# Altium integrated library Renesas Microcontroller M16C.IntLib: 423 symbols (part 10 of 30)
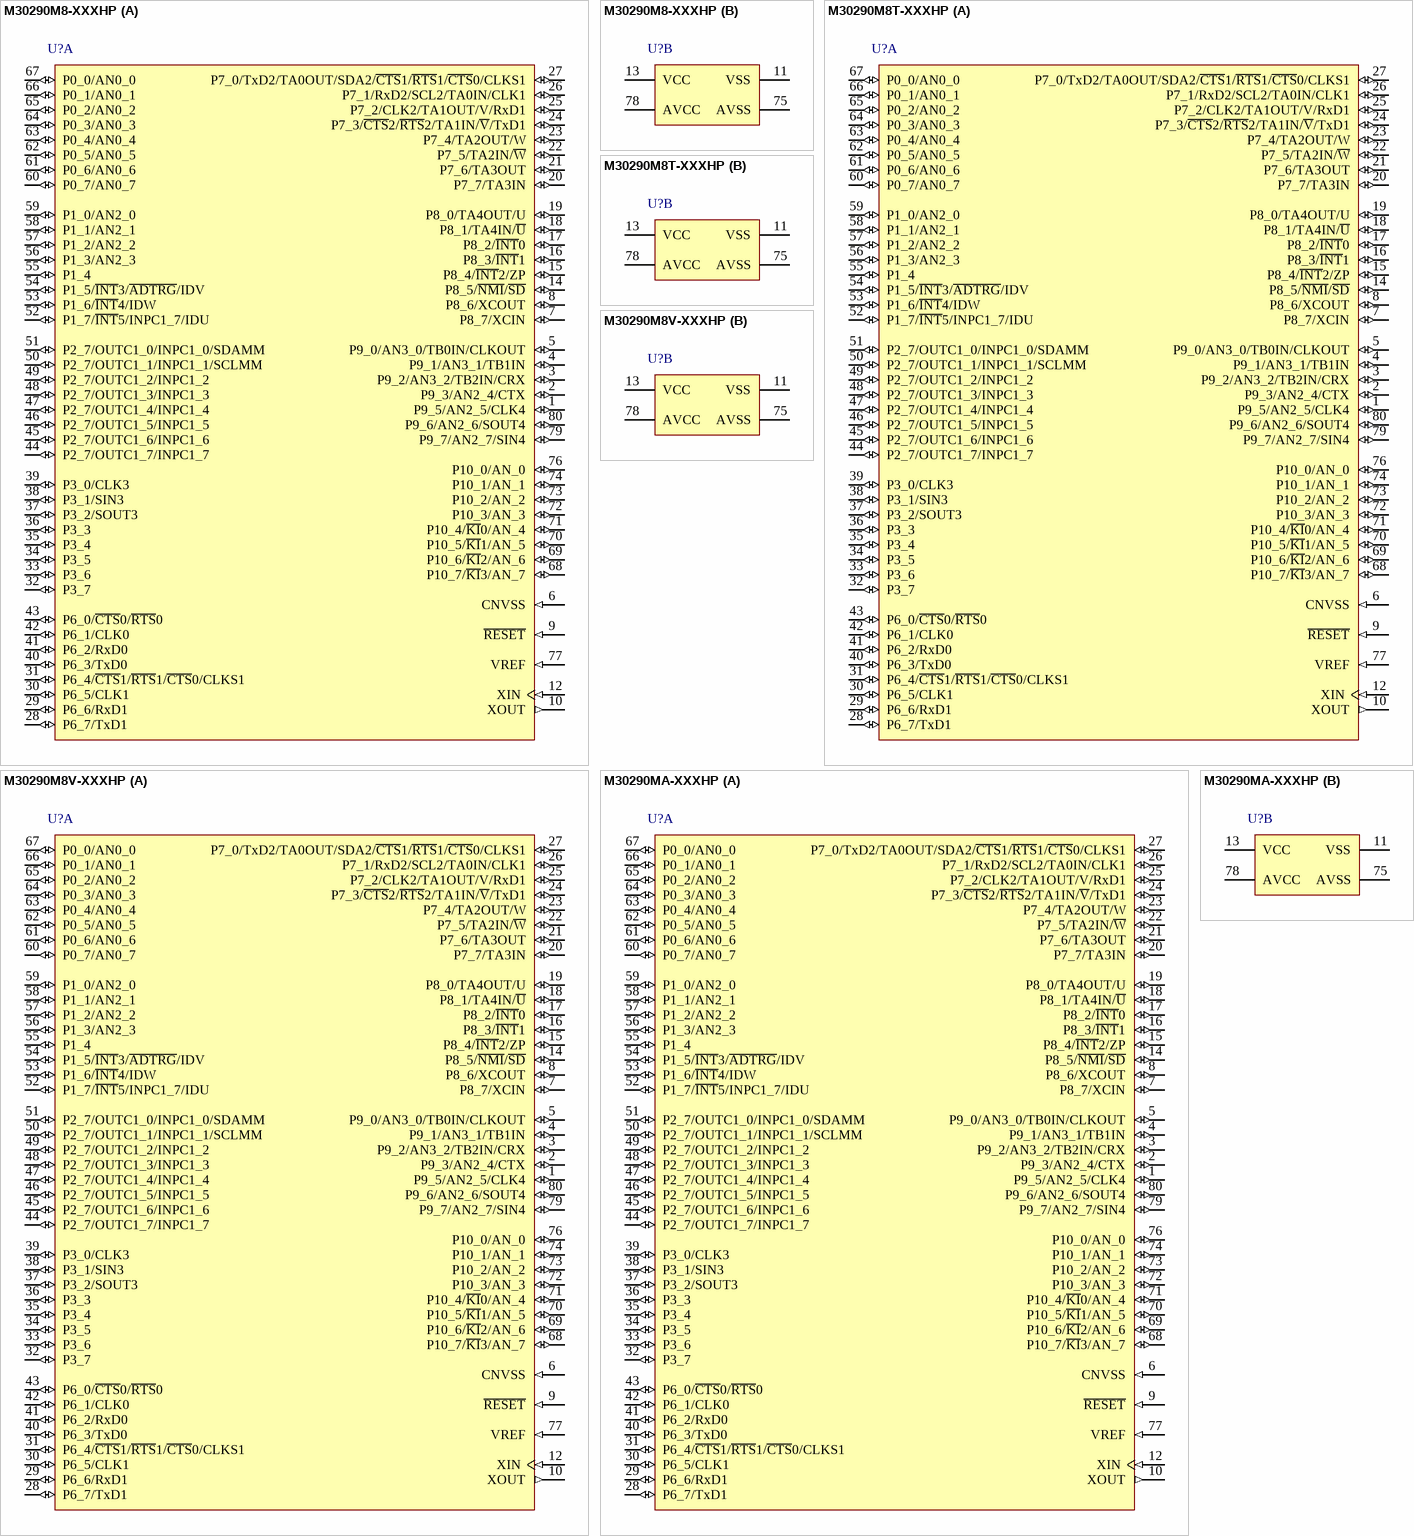
[diagram p195: symbols M30290M8-XXXHP to M30290MA-XXXHP]

## M30290MA-XXXHP
designator U?
Mask ROM M16C/Tiny Series, 29 Group MCU, 96K ROM, 8K RAM, 80-pin LQFP; Note: Set bits PACR2 to PACR0 in PACR register.  If PACR register isn't set up, input & output function of some pins disabled.; Published: 28-Aug-2009; DatasheetVersion: Rev.1.12, Mar-2007; PackageVersion: Sep-2005; PackageReference: PLQP0080KB-A; Publisher: Altium Limited; PackageDescription: 80-Pin Plastic Low Profile QFP, 12 x 12 x 1.4 mm Body, 0.5 mm Pitch; Code_JEITA: P-LQFP80-12x12-0.50; Code_IPC: SQFP50P1400X1400-80; ComponentLink1Description: Manufacturer Link; ComponentLink1URL: http://sg.renesas.com/fmwk.jsp?cnt=m16c_family_landing.jsp&fp=/products/mpumcu/m16c_family/; ComponentLink2Description: Datasheet; ComponentLink2URL: http://documentation.renesas.com/eng/products/mpumcu/rej09b0101_16c29hm.pdf; ComponentLink3Description: Packaging Specification; ComponentLink3URL: http://sg.renesas.com/media/products/common_info/package/pdf/ic/code/plqp0080kb_a.pdf
footprint PLQP0080KB-A_N (Shrink QFP, 80-Leads, Body 12x12mm, Pitch 0.5mm, IPC Medium Density)
footprint PLQP0080KB-A_L (Shrink QFP, 80-Leads, Body 12x12mm, Pitch 0.5mm, IPC High Density)
footprint PLQP0080KB-A_M (Shrink QFP, 80-Leads, Body 12x12mm, Pitch 0.5mm, IPC Low Density)
part A pins: 1 P9_5/AN2_5/CLK4 (io), 2 P9_3/AN2_4/CTX (io), 3 P9_2/AN3_2/TB2IN/CRX (io), 4 P9_1/AN3_1/TB1IN (io), 5 P9_0/AN3_0/TB0IN/CLKOUT (io), 6 CNVSS (in), 7 P8_7/XCIN (io), 8 P8_6/XCOUT (io), 9 ~{RESET} (in), 10 XOUT (out), 12 XIN (in), 14 P8_5/~{NMI}/~{SD} (io), 15 P8_4/~{INT}2/ZP (io), 16 P8_3/~{INT}1 (io), 17 P8_2/~{INT}0 (io), 18 P8_1/TA4IN/~{U} (io), 19 P8_0/TA4OUT/U (io), 20 P7_7/TA3IN (io), 21 P7_6/TA3OUT (io), 22 P7_5/TA2IN/~{W} (io), 23 P7_4/TA2OUT/W (io), 24 P7_3/~{CTS}2/~{RTS}2/TA1IN/~{V}/TxD1 (io), 25 P7_2/CLK2/TA1OUT/V/RxD1 (io), 26 P7_1/RxD2/SCL2/TA0IN/CLK1 (io), 27 P7_0/TxD2/TA0OUT/SDA2/~{CTS}1/~{RTS}1/~{CTS}0/CLKS1 (io), 28 P6_7/TxD1 (io), 29 P6_6/RxD1 (io), 30 P6_5/CLK1 (io), 31 P6_4/~{CTS}1/~{RTS}1/~{CTS}0/CLKS1 (io), 32 P3_7 (io), 33 P3_6 (io), 34 P3_5 (io), 35 P3_4 (io), 36 P3_3 (io), 37 P3_2/SOUT3 (io), 38 P3_1/SIN3 (io), 39 P3_0/CLK3 (io), 40 P6_3/TxD0 (io), 41 P6_2/RxD0 (io), 42 P6_1/CLK0 (io), 43 P6_0/~{CTS}0/~{RTS}0 (io), 44 P2_7/OUTC1_7/INPC1_7 (io), 45 P2_7/OUTC1_6/INPC1_6 (io), 46 P2_7/OUTC1_5/INPC1_5 (io), 47 P2_7/OUTC1_4/INPC1_4 (io), 48 P2_7/OUTC1_3/INPC1_3 (io), 49 P2_7/OUTC1_2/INPC1_2 (io), 50 P2_7/OUTC1_1/INPC1_1/SCLMM (io), 51 P2_7/OUTC1_0/INPC1_0/SDAMM (io), 52 P1_7/~{INT}5/INPC1_7/IDU (io), 53 P1_6/~{INT}4/IDW (io), 54 P1_5/~{INT}3/~{ADTRG}/IDV (io), 55 P1_4 (io), 56 P1_3/AN2_3 (io), 57 P1_2/AN2_2 (io), 58 P1_1/AN2_1 (io), 59 P1_0/AN2_0 (io), 60 P0_7/AN0_7 (io), 61 P0_6/AN0_6 (io), 62 P0_5/AN0_5 (io), 63 P0_4/AN0_4 (io), 64 P0_3/AN0_3 (io), 65 P0_2/AN0_2 (io), 66 P0_1/AN0_1 (io), 67 P0_0/AN0_0 (io), 68 P10_7/~{KI}3/AN_7 (io), 69 P10_6/~{KI}2/AN_6 (io), 70 P10_5/~{KI}1/AN_5 (io), 71 P10_4/~{KI}0/AN_4 (io), 72 P10_3/AN_3 (io), 73 P10_2/AN_2 (io), 74 P10_1/AN_1 (io), 76 P10_0/AN_0 (io), 77 VREF (in), 79 P9_7/AN2_7/SIN4 (io), 80 P9_6/AN2_6/SOUT4 (io)
part B pins: 11 VSS (power), 13 VCC (power), 75 AVSS (power), 78 AVCC (power)

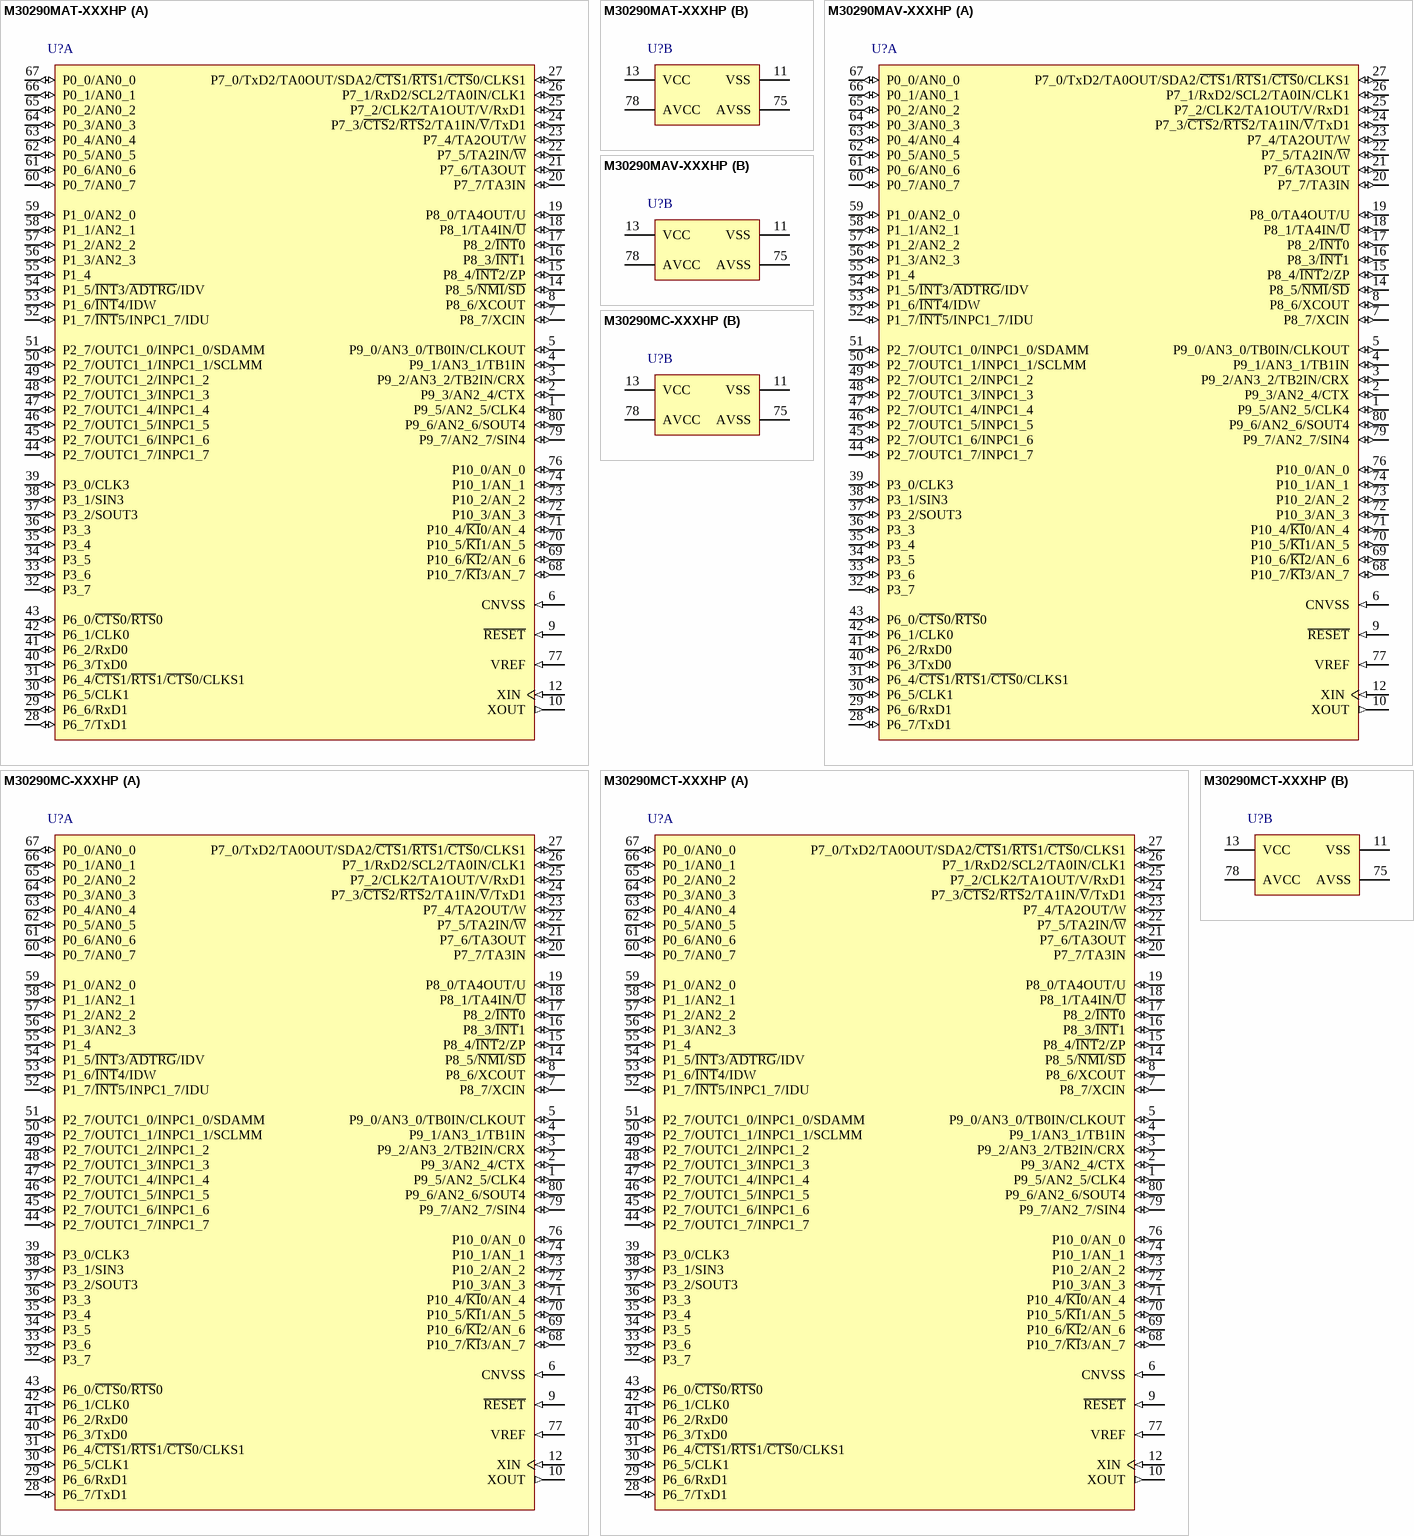
[diagram p52: symbols M30290MAT-XXXHP to M30290MCT-XXXHP]

## M30290MAT-XXXHP
designator U?
Mask ROM M16C/Tiny Series, 29 Group MCU, 96K ROM, 8K RAM, 80-pin LQFP, Version T; Note: Set bits PACR2 to PACR0 in PACR register.  If PACR register isn't set up, input & output function of some pins disabled.; Published: 28-Aug-2009; DatasheetVersion: Rev.1.12, Mar-2007; PackageVersion: Sep-2005; PackageReference: PLQP0080KB-A; Publisher: Altium Limited; PackageDescription: 80-Pin Plastic Low Profile QFP, 12 x 12 x 1.4 mm Body, 0.5 mm Pitch; Code_JEITA: P-LQFP80-12x12-0.50; Code_IPC: SQFP50P1400X1400-80; ComponentLink1Description: Manufacturer Link; ComponentLink1URL: http://sg.renesas.com/fmwk.jsp?cnt=m16c_family_landing.jsp&fp=/products/mpumcu/m16c_family/; ComponentLink2Description: Datasheet; ComponentLink2URL: http://documentation.renesas.com/eng/products/mpumcu/rej09b0101_16c29hm.pdf; ComponentLink3Description: Packaging Specification; ComponentLink3URL: http://sg.renesas.com/media/products/common_info/package/pdf/ic/code/plqp0080kb_a.pdf
footprint PLQP0080KB-A_N (Shrink QFP, 80-Leads, Body 12x12mm, Pitch 0.5mm, IPC Medium Density)
footprint PLQP0080KB-A_L (Shrink QFP, 80-Leads, Body 12x12mm, Pitch 0.5mm, IPC High Density)
footprint PLQP0080KB-A_M (Shrink QFP, 80-Leads, Body 12x12mm, Pitch 0.5mm, IPC Low Density)
part A pins: 1 P9_5/AN2_5/CLK4 (io), 2 P9_3/AN2_4/CTX (io), 3 P9_2/AN3_2/TB2IN/CRX (io), 4 P9_1/AN3_1/TB1IN (io), 5 P9_0/AN3_0/TB0IN/CLKOUT (io), 6 CNVSS (in), 7 P8_7/XCIN (io), 8 P8_6/XCOUT (io), 9 ~{RESET} (in), 10 XOUT (out), 12 XIN (in), 14 P8_5/~{NMI}/~{SD} (io), 15 P8_4/~{INT}2/ZP (io), 16 P8_3/~{INT}1 (io), 17 P8_2/~{INT}0 (io), 18 P8_1/TA4IN/~{U} (io), 19 P8_0/TA4OUT/U (io), 20 P7_7/TA3IN (io), 21 P7_6/TA3OUT (io), 22 P7_5/TA2IN/~{W} (io), 23 P7_4/TA2OUT/W (io), 24 P7_3/~{CTS}2/~{RTS}2/TA1IN/~{V}/TxD1 (io), 25 P7_2/CLK2/TA1OUT/V/RxD1 (io), 26 P7_1/RxD2/SCL2/TA0IN/CLK1 (io), 27 P7_0/TxD2/TA0OUT/SDA2/~{CTS}1/~{RTS}1/~{CTS}0/CLKS1 (io), 28 P6_7/TxD1 (io), 29 P6_6/RxD1 (io), 30 P6_5/CLK1 (io), 31 P6_4/~{CTS}1/~{RTS}1/~{CTS}0/CLKS1 (io), 32 P3_7 (io), 33 P3_6 (io), 34 P3_5 (io), 35 P3_4 (io), 36 P3_3 (io), 37 P3_2/SOUT3 (io), 38 P3_1/SIN3 (io), 39 P3_0/CLK3 (io), 40 P6_3/TxD0 (io), 41 P6_2/RxD0 (io), 42 P6_1/CLK0 (io), 43 P6_0/~{CTS}0/~{RTS}0 (io), 44 P2_7/OUTC1_7/INPC1_7 (io), 45 P2_7/OUTC1_6/INPC1_6 (io), 46 P2_7/OUTC1_5/INPC1_5 (io), 47 P2_7/OUTC1_4/INPC1_4 (io), 48 P2_7/OUTC1_3/INPC1_3 (io), 49 P2_7/OUTC1_2/INPC1_2 (io), 50 P2_7/OUTC1_1/INPC1_1/SCLMM (io), 51 P2_7/OUTC1_0/INPC1_0/SDAMM (io), 52 P1_7/~{INT}5/INPC1_7/IDU (io), 53 P1_6/~{INT}4/IDW (io), 54 P1_5/~{INT}3/~{ADTRG}/IDV (io), 55 P1_4 (io), 56 P1_3/AN2_3 (io), 57 P1_2/AN2_2 (io), 58 P1_1/AN2_1 (io), 59 P1_0/AN2_0 (io), 60 P0_7/AN0_7 (io), 61 P0_6/AN0_6 (io), 62 P0_5/AN0_5 (io), 63 P0_4/AN0_4 (io), 64 P0_3/AN0_3 (io), 65 P0_2/AN0_2 (io), 66 P0_1/AN0_1 (io), 67 P0_0/AN0_0 (io), 68 P10_7/~{KI}3/AN_7 (io), 69 P10_6/~{KI}2/AN_6 (io), 70 P10_5/~{KI}1/AN_5 (io), 71 P10_4/~{KI}0/AN_4 (io), 72 P10_3/AN_3 (io), 73 P10_2/AN_2 (io), 74 P10_1/AN_1 (io), 76 P10_0/AN_0 (io), 77 VREF (in), 79 P9_7/AN2_7/SIN4 (io), 80 P9_6/AN2_6/SOUT4 (io)
part B pins: 11 VSS (power), 13 VCC (power), 75 AVSS (power), 78 AVCC (power)

## M30290MAV-XXXHP
designator U?
Mask ROM M16C/Tiny Series, 29 Group MCU, 96K ROM, 8K RAM, 80-pin LQFP, Version V; Note: Set bits PACR2 to PACR0 in PACR register.  If PACR register isn't set up, input & output function of some pins disabled.; Published: 28-Aug-2009; DatasheetVersion: Rev.1.12, Mar-2007; PackageVersion: Sep-2005; PackageReference: PLQP0080KB-A; Publisher: Altium Limited; PackageDescription: 80-Pin Plastic Low Profile QFP, 12 x 12 x 1.4 mm Body, 0.5 mm Pitch; Code_JEITA: P-LQFP80-12x12-0.50; Code_IPC: SQFP50P1400X1400-80; ComponentLink1Description: Manufacturer Link; ComponentLink1URL: http://sg.renesas.com/fmwk.jsp?cnt=m16c_family_landing.jsp&fp=/products/mpumcu/m16c_family/; ComponentLink2Description: Datasheet; ComponentLink2URL: http://documentation.renesas.com/eng/products/mpumcu/rej09b0101_16c29hm.pdf; ComponentLink3Description: Packaging Specification; ComponentLink3URL: http://sg.renesas.com/media/products/common_info/package/pdf/ic/code/plqp0080kb_a.pdf
footprint PLQP0080KB-A_N (Shrink QFP, 80-Leads, Body 12x12mm, Pitch 0.5mm, IPC Medium Density)
footprint PLQP0080KB-A_L (Shrink QFP, 80-Leads, Body 12x12mm, Pitch 0.5mm, IPC High Density)
footprint PLQP0080KB-A_M (Shrink QFP, 80-Leads, Body 12x12mm, Pitch 0.5mm, IPC Low Density)
part A pins: 1 P9_5/AN2_5/CLK4 (io), 2 P9_3/AN2_4/CTX (io), 3 P9_2/AN3_2/TB2IN/CRX (io), 4 P9_1/AN3_1/TB1IN (io), 5 P9_0/AN3_0/TB0IN/CLKOUT (io), 6 CNVSS (in), 7 P8_7/XCIN (io), 8 P8_6/XCOUT (io), 9 ~{RESET} (in), 10 XOUT (out), 12 XIN (in), 14 P8_5/~{NMI}/~{SD} (io), 15 P8_4/~{INT}2/ZP (io), 16 P8_3/~{INT}1 (io), 17 P8_2/~{INT}0 (io), 18 P8_1/TA4IN/~{U} (io), 19 P8_0/TA4OUT/U (io), 20 P7_7/TA3IN (io), 21 P7_6/TA3OUT (io), 22 P7_5/TA2IN/~{W} (io), 23 P7_4/TA2OUT/W (io), 24 P7_3/~{CTS}2/~{RTS}2/TA1IN/~{V}/TxD1 (io), 25 P7_2/CLK2/TA1OUT/V/RxD1 (io), 26 P7_1/RxD2/SCL2/TA0IN/CLK1 (io), 27 P7_0/TxD2/TA0OUT/SDA2/~{CTS}1/~{RTS}1/~{CTS}0/CLKS1 (io), 28 P6_7/TxD1 (io), 29 P6_6/RxD1 (io), 30 P6_5/CLK1 (io), 31 P6_4/~{CTS}1/~{RTS}1/~{CTS}0/CLKS1 (io), 32 P3_7 (io), 33 P3_6 (io), 34 P3_5 (io), 35 P3_4 (io), 36 P3_3 (io), 37 P3_2/SOUT3 (io), 38 P3_1/SIN3 (io), 39 P3_0/CLK3 (io), 40 P6_3/TxD0 (io), 41 P6_2/RxD0 (io), 42 P6_1/CLK0 (io), 43 P6_0/~{CTS}0/~{RTS}0 (io), 44 P2_7/OUTC1_7/INPC1_7 (io), 45 P2_7/OUTC1_6/INPC1_6 (io), 46 P2_7/OUTC1_5/INPC1_5 (io), 47 P2_7/OUTC1_4/INPC1_4 (io), 48 P2_7/OUTC1_3/INPC1_3 (io), 49 P2_7/OUTC1_2/INPC1_2 (io), 50 P2_7/OUTC1_1/INPC1_1/SCLMM (io), 51 P2_7/OUTC1_0/INPC1_0/SDAMM (io), 52 P1_7/~{INT}5/INPC1_7/IDU (io), 53 P1_6/~{INT}4/IDW (io), 54 P1_5/~{INT}3/~{ADTRG}/IDV (io), 55 P1_4 (io), 56 P1_3/AN2_3 (io), 57 P1_2/AN2_2 (io), 58 P1_1/AN2_1 (io), 59 P1_0/AN2_0 (io), 60 P0_7/AN0_7 (io), 61 P0_6/AN0_6 (io), 62 P0_5/AN0_5 (io), 63 P0_4/AN0_4 (io), 64 P0_3/AN0_3 (io), 65 P0_2/AN0_2 (io), 66 P0_1/AN0_1 (io), 67 P0_0/AN0_0 (io), 68 P10_7/~{KI}3/AN_7 (io), 69 P10_6/~{KI}2/AN_6 (io), 70 P10_5/~{KI}1/AN_5 (io), 71 P10_4/~{KI}0/AN_4 (io), 72 P10_3/AN_3 (io), 73 P10_2/AN_2 (io), 74 P10_1/AN_1 (io), 76 P10_0/AN_0 (io), 77 VREF (in), 79 P9_7/AN2_7/SIN4 (io), 80 P9_6/AN2_6/SOUT4 (io)
part B pins: 11 VSS (power), 13 VCC (power), 75 AVSS (power), 78 AVCC (power)

## M30290MC-XXXHP
designator U?
Mask ROM M16C/Tiny Series, 29 Group MCU, 128K ROM, 12K RAM, 80-pin LQFP; Note: Set bits PACR2 to PACR0 in PACR register.  If PACR register isn't set up, input & output function of some pins disabled.; Published: 28-Aug-2009; DatasheetVersion: Rev.1.12, Mar-2007; PackageVersion: Sep-2005; PackageReference: PLQP0080KB-A; Publisher: Altium Limited; PackageDescription: 80-Pin Plastic Low Profile QFP, 12 x 12 x 1.4 mm Body, 0.5 mm Pitch; Code_JEITA: P-LQFP80-12x12-0.50; Code_IPC: SQFP50P1400X1400-80; ComponentLink1Description: Manufacturer Link; ComponentLink1URL: http://sg.renesas.com/fmwk.jsp?cnt=m16c_family_landing.jsp&fp=/products/mpumcu/m16c_family/; ComponentLink2Description: Datasheet; ComponentLink2URL: http://documentation.renesas.com/eng/products/mpumcu/rej09b0101_16c29hm.pdf; ComponentLink3Description: Packaging Specification; ComponentLink3URL: http://sg.renesas.com/media/products/common_info/package/pdf/ic/code/plqp0080kb_a.pdf
footprint PLQP0080KB-A_N (Shrink QFP, 80-Leads, Body 12x12mm, Pitch 0.5mm, IPC Medium Density)
footprint PLQP0080KB-A_L (Shrink QFP, 80-Leads, Body 12x12mm, Pitch 0.5mm, IPC High Density)
footprint PLQP0080KB-A_M (Shrink QFP, 80-Leads, Body 12x12mm, Pitch 0.5mm, IPC Low Density)
part A pins: 1 P9_5/AN2_5/CLK4 (io), 2 P9_3/AN2_4/CTX (io), 3 P9_2/AN3_2/TB2IN/CRX (io), 4 P9_1/AN3_1/TB1IN (io), 5 P9_0/AN3_0/TB0IN/CLKOUT (io), 6 CNVSS (in), 7 P8_7/XCIN (io), 8 P8_6/XCOUT (io), 9 ~{RESET} (in), 10 XOUT (out), 12 XIN (in), 14 P8_5/~{NMI}/~{SD} (io), 15 P8_4/~{INT}2/ZP (io), 16 P8_3/~{INT}1 (io), 17 P8_2/~{INT}0 (io), 18 P8_1/TA4IN/~{U} (io), 19 P8_0/TA4OUT/U (io), 20 P7_7/TA3IN (io), 21 P7_6/TA3OUT (io), 22 P7_5/TA2IN/~{W} (io), 23 P7_4/TA2OUT/W (io), 24 P7_3/~{CTS}2/~{RTS}2/TA1IN/~{V}/TxD1 (io), 25 P7_2/CLK2/TA1OUT/V/RxD1 (io), 26 P7_1/RxD2/SCL2/TA0IN/CLK1 (io), 27 P7_0/TxD2/TA0OUT/SDA2/~{CTS}1/~{RTS}1/~{CTS}0/CLKS1 (io), 28 P6_7/TxD1 (io), 29 P6_6/RxD1 (io), 30 P6_5/CLK1 (io), 31 P6_4/~{CTS}1/~{RTS}1/~{CTS}0/CLKS1 (io), 32 P3_7 (io), 33 P3_6 (io), 34 P3_5 (io), 35 P3_4 (io), 36 P3_3 (io), 37 P3_2/SOUT3 (io), 38 P3_1/SIN3 (io), 39 P3_0/CLK3 (io), 40 P6_3/TxD0 (io), 41 P6_2/RxD0 (io), 42 P6_1/CLK0 (io), 43 P6_0/~{CTS}0/~{RTS}0 (io), 44 P2_7/OUTC1_7/INPC1_7 (io), 45 P2_7/OUTC1_6/INPC1_6 (io), 46 P2_7/OUTC1_5/INPC1_5 (io), 47 P2_7/OUTC1_4/INPC1_4 (io), 48 P2_7/OUTC1_3/INPC1_3 (io), 49 P2_7/OUTC1_2/INPC1_2 (io), 50 P2_7/OUTC1_1/INPC1_1/SCLMM (io), 51 P2_7/OUTC1_0/INPC1_0/SDAMM (io), 52 P1_7/~{INT}5/INPC1_7/IDU (io), 53 P1_6/~{INT}4/IDW (io), 54 P1_5/~{INT}3/~{ADTRG}/IDV (io), 55 P1_4 (io), 56 P1_3/AN2_3 (io), 57 P1_2/AN2_2 (io), 58 P1_1/AN2_1 (io), 59 P1_0/AN2_0 (io), 60 P0_7/AN0_7 (io), 61 P0_6/AN0_6 (io), 62 P0_5/AN0_5 (io), 63 P0_4/AN0_4 (io), 64 P0_3/AN0_3 (io), 65 P0_2/AN0_2 (io), 66 P0_1/AN0_1 (io), 67 P0_0/AN0_0 (io), 68 P10_7/~{KI}3/AN_7 (io), 69 P10_6/~{KI}2/AN_6 (io), 70 P10_5/~{KI}1/AN_5 (io), 71 P10_4/~{KI}0/AN_4 (io), 72 P10_3/AN_3 (io), 73 P10_2/AN_2 (io), 74 P10_1/AN_1 (io), 76 P10_0/AN_0 (io), 77 VREF (in), 79 P9_7/AN2_7/SIN4 (io), 80 P9_6/AN2_6/SOUT4 (io)
part B pins: 11 VSS (power), 13 VCC (power), 75 AVSS (power), 78 AVCC (power)

## M30290MCT-XXXHP
designator U?
Mask ROM M16C/Tiny Series, 29 Group MCU, 128K ROM, 12K RAM, 80-pin LQFP, Version T; Note: Set bits PACR2 to PACR0 in PACR register.  If PACR register isn't set up, input & output function of some pins disabled.; Published: 28-Aug-2009; DatasheetVersion: Rev.1.12, Mar-2007; PackageVersion: Sep-2005; PackageReference: PLQP0080KB-A; Publisher: Altium Limited; PackageDescription: 80-Pin Plastic Low Profile QFP, 12 x 12 x 1.4 mm Body, 0.5 mm Pitch; Code_JEITA: P-LQFP80-12x12-0.50; Code_IPC: SQFP50P1400X1400-80; ComponentLink1Description: Manufacturer Link; ComponentLink1URL: http://sg.renesas.com/fmwk.jsp?cnt=m16c_family_landing.jsp&fp=/products/mpumcu/m16c_family/; ComponentLink2Description: Datasheet; ComponentLink2URL: http://documentation.renesas.com/eng/products/mpumcu/rej09b0101_16c29hm.pdf; ComponentLink3Description: Packaging Specification; ComponentLink3URL: http://sg.renesas.com/media/products/common_info/package/pdf/ic/code/plqp0080kb_a.pdf
footprint PLQP0080KB-A_N (Shrink QFP, 80-Leads, Body 12x12mm, Pitch 0.5mm, IPC Medium Density)
footprint PLQP0080KB-A_L (Shrink QFP, 80-Leads, Body 12x12mm, Pitch 0.5mm, IPC High Density)
footprint PLQP0080KB-A_M (Shrink QFP, 80-Leads, Body 12x12mm, Pitch 0.5mm, IPC Low Density)
part A pins: 1 P9_5/AN2_5/CLK4 (io), 2 P9_3/AN2_4/CTX (io), 3 P9_2/AN3_2/TB2IN/CRX (io), 4 P9_1/AN3_1/TB1IN (io), 5 P9_0/AN3_0/TB0IN/CLKOUT (io), 6 CNVSS (in), 7 P8_7/XCIN (io), 8 P8_6/XCOUT (io), 9 ~{RESET} (in), 10 XOUT (out), 12 XIN (in), 14 P8_5/~{NMI}/~{SD} (io), 15 P8_4/~{INT}2/ZP (io), 16 P8_3/~{INT}1 (io), 17 P8_2/~{INT}0 (io), 18 P8_1/TA4IN/~{U} (io), 19 P8_0/TA4OUT/U (io), 20 P7_7/TA3IN (io), 21 P7_6/TA3OUT (io), 22 P7_5/TA2IN/~{W} (io), 23 P7_4/TA2OUT/W (io), 24 P7_3/~{CTS}2/~{RTS}2/TA1IN/~{V}/TxD1 (io), 25 P7_2/CLK2/TA1OUT/V/RxD1 (io), 26 P7_1/RxD2/SCL2/TA0IN/CLK1 (io), 27 P7_0/TxD2/TA0OUT/SDA2/~{CTS}1/~{RTS}1/~{CTS}0/CLKS1 (io), 28 P6_7/TxD1 (io), 29 P6_6/RxD1 (io), 30 P6_5/CLK1 (io), 31 P6_4/~{CTS}1/~{RTS}1/~{CTS}0/CLKS1 (io), 32 P3_7 (io), 33 P3_6 (io), 34 P3_5 (io), 35 P3_4 (io), 36 P3_3 (io), 37 P3_2/SOUT3 (io), 38 P3_1/SIN3 (io), 39 P3_0/CLK3 (io), 40 P6_3/TxD0 (io), 41 P6_2/RxD0 (io), 42 P6_1/CLK0 (io), 43 P6_0/~{CTS}0/~{RTS}0 (io), 44 P2_7/OUTC1_7/INPC1_7 (io), 45 P2_7/OUTC1_6/INPC1_6 (io), 46 P2_7/OUTC1_5/INPC1_5 (io), 47 P2_7/OUTC1_4/INPC1_4 (io), 48 P2_7/OUTC1_3/INPC1_3 (io), 49 P2_7/OUTC1_2/INPC1_2 (io), 50 P2_7/OUTC1_1/INPC1_1/SCLMM (io), 51 P2_7/OUTC1_0/INPC1_0/SDAMM (io), 52 P1_7/~{INT}5/INPC1_7/IDU (io), 53 P1_6/~{INT}4/IDW (io), 54 P1_5/~{INT}3/~{ADTRG}/IDV (io), 55 P1_4 (io), 56 P1_3/AN2_3 (io), 57 P1_2/AN2_2 (io), 58 P1_1/AN2_1 (io), 59 P1_0/AN2_0 (io), 60 P0_7/AN0_7 (io), 61 P0_6/AN0_6 (io), 62 P0_5/AN0_5 (io), 63 P0_4/AN0_4 (io), 64 P0_3/AN0_3 (io), 65 P0_2/AN0_2 (io), 66 P0_1/AN0_1 (io), 67 P0_0/AN0_0 (io), 68 P10_7/~{KI}3/AN_7 (io), 69 P10_6/~{KI}2/AN_6 (io), 70 P10_5/~{KI}1/AN_5 (io), 71 P10_4/~{KI}0/AN_4 (io), 72 P10_3/AN_3 (io), 73 P10_2/AN_2 (io), 74 P10_1/AN_1 (io), 76 P10_0/AN_0 (io), 77 VREF (in), 79 P9_7/AN2_7/SIN4 (io), 80 P9_6/AN2_6/SOUT4 (io)
part B pins: 11 VSS (power), 13 VCC (power), 75 AVSS (power), 78 AVCC (power)

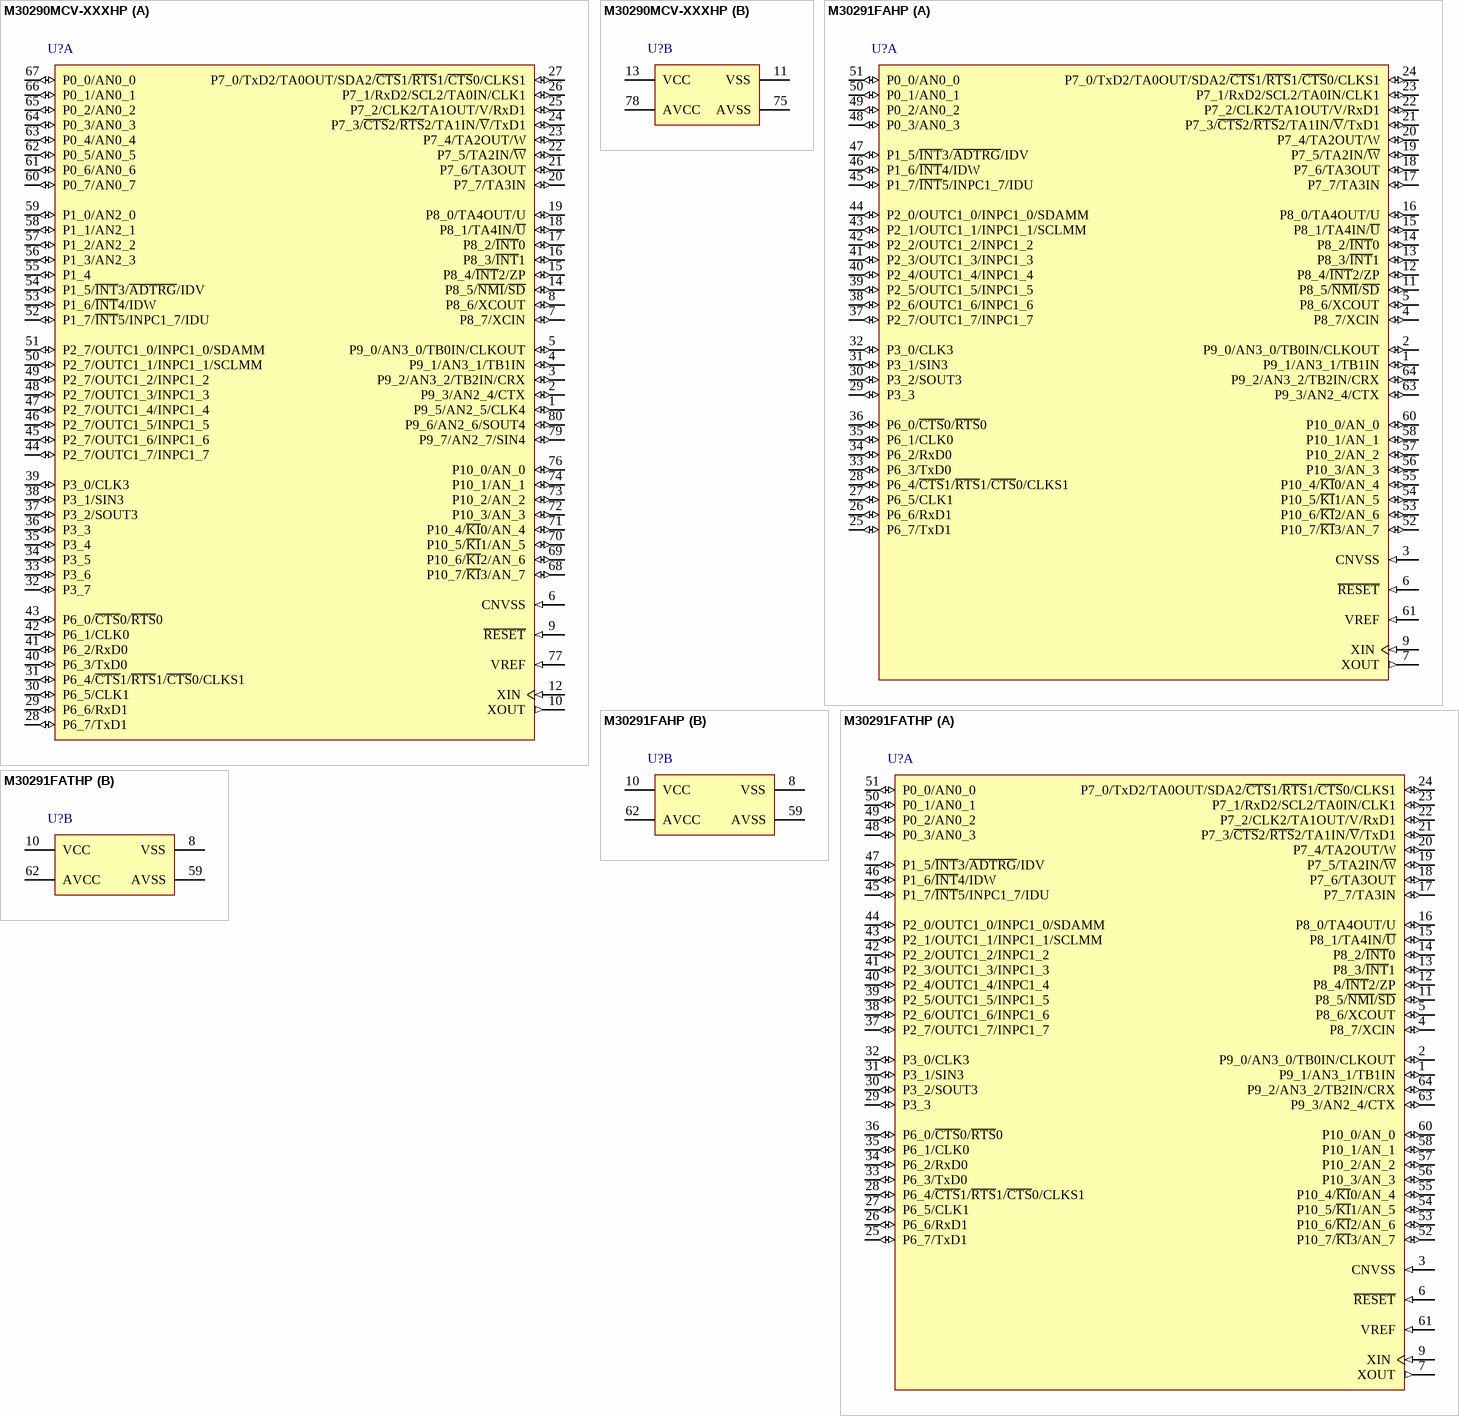
[diagram p53: symbols M30290MCV-XXXHP to M30291FATHP]

## M30290MCV-XXXHP
designator U?
Mask ROM M16C/Tiny Series, 29 Group MCU, 128K ROM, 12K RAM, 80-pin LQFP, Version V; Note: Set bits PACR2 to PACR0 in PACR register.  If PACR register isn't set up, input & output function of some pins disabled.; Published: 28-Aug-2009; DatasheetVersion: Rev.1.12, Mar-2007; PackageVersion: Sep-2005; PackageReference: PLQP0080KB-A; Publisher: Altium Limited; PackageDescription: 80-Pin Plastic Low Profile QFP, 12 x 12 x 1.4 mm Body, 0.5 mm Pitch; Code_JEITA: P-LQFP80-12x12-0.50; Code_IPC: SQFP50P1400X1400-80; ComponentLink1Description: Manufacturer Link; ComponentLink1URL: http://sg.renesas.com/fmwk.jsp?cnt=m16c_family_landing.jsp&fp=/products/mpumcu/m16c_family/; ComponentLink2Description: Datasheet; ComponentLink2URL: http://documentation.renesas.com/eng/products/mpumcu/rej09b0101_16c29hm.pdf; ComponentLink3Description: Packaging Specification; ComponentLink3URL: http://sg.renesas.com/media/products/common_info/package/pdf/ic/code/plqp0080kb_a.pdf
footprint PLQP0080KB-A_N (Shrink QFP, 80-Leads, Body 12x12mm, Pitch 0.5mm, IPC Medium Density)
footprint PLQP0080KB-A_L (Shrink QFP, 80-Leads, Body 12x12mm, Pitch 0.5mm, IPC High Density)
footprint PLQP0080KB-A_M (Shrink QFP, 80-Leads, Body 12x12mm, Pitch 0.5mm, IPC Low Density)
part A pins: 1 P9_5/AN2_5/CLK4 (io), 2 P9_3/AN2_4/CTX (io), 3 P9_2/AN3_2/TB2IN/CRX (io), 4 P9_1/AN3_1/TB1IN (io), 5 P9_0/AN3_0/TB0IN/CLKOUT (io), 6 CNVSS (in), 7 P8_7/XCIN (io), 8 P8_6/XCOUT (io), 9 ~{RESET} (in), 10 XOUT (out), 12 XIN (in), 14 P8_5/~{NMI}/~{SD} (io), 15 P8_4/~{INT}2/ZP (io), 16 P8_3/~{INT}1 (io), 17 P8_2/~{INT}0 (io), 18 P8_1/TA4IN/~{U} (io), 19 P8_0/TA4OUT/U (io), 20 P7_7/TA3IN (io), 21 P7_6/TA3OUT (io), 22 P7_5/TA2IN/~{W} (io), 23 P7_4/TA2OUT/W (io), 24 P7_3/~{CTS}2/~{RTS}2/TA1IN/~{V}/TxD1 (io), 25 P7_2/CLK2/TA1OUT/V/RxD1 (io), 26 P7_1/RxD2/SCL2/TA0IN/CLK1 (io), 27 P7_0/TxD2/TA0OUT/SDA2/~{CTS}1/~{RTS}1/~{CTS}0/CLKS1 (io), 28 P6_7/TxD1 (io), 29 P6_6/RxD1 (io), 30 P6_5/CLK1 (io), 31 P6_4/~{CTS}1/~{RTS}1/~{CTS}0/CLKS1 (io), 32 P3_7 (io), 33 P3_6 (io), 34 P3_5 (io), 35 P3_4 (io), 36 P3_3 (io), 37 P3_2/SOUT3 (io), 38 P3_1/SIN3 (io), 39 P3_0/CLK3 (io), 40 P6_3/TxD0 (io), 41 P6_2/RxD0 (io), 42 P6_1/CLK0 (io), 43 P6_0/~{CTS}0/~{RTS}0 (io), 44 P2_7/OUTC1_7/INPC1_7 (io), 45 P2_7/OUTC1_6/INPC1_6 (io), 46 P2_7/OUTC1_5/INPC1_5 (io), 47 P2_7/OUTC1_4/INPC1_4 (io), 48 P2_7/OUTC1_3/INPC1_3 (io), 49 P2_7/OUTC1_2/INPC1_2 (io), 50 P2_7/OUTC1_1/INPC1_1/SCLMM (io), 51 P2_7/OUTC1_0/INPC1_0/SDAMM (io), 52 P1_7/~{INT}5/INPC1_7/IDU (io), 53 P1_6/~{INT}4/IDW (io), 54 P1_5/~{INT}3/~{ADTRG}/IDV (io), 55 P1_4 (io), 56 P1_3/AN2_3 (io), 57 P1_2/AN2_2 (io), 58 P1_1/AN2_1 (io), 59 P1_0/AN2_0 (io), 60 P0_7/AN0_7 (io), 61 P0_6/AN0_6 (io), 62 P0_5/AN0_5 (io), 63 P0_4/AN0_4 (io), 64 P0_3/AN0_3 (io), 65 P0_2/AN0_2 (io), 66 P0_1/AN0_1 (io), 67 P0_0/AN0_0 (io), 68 P10_7/~{KI}3/AN_7 (io), 69 P10_6/~{KI}2/AN_6 (io), 70 P10_5/~{KI}1/AN_5 (io), 71 P10_4/~{KI}0/AN_4 (io), 72 P10_3/AN_3 (io), 73 P10_2/AN_2 (io), 74 P10_1/AN_1 (io), 76 P10_0/AN_0 (io), 77 VREF (in), 79 P9_7/AN2_7/SIN4 (io), 80 P9_6/AN2_6/SOUT4 (io)
part B pins: 11 VSS (power), 13 VCC (power), 75 AVSS (power), 78 AVCC (power)

## M30291FAHP
designator U?
Flash Memory M16C/Tiny Series, 29 Group MCU, 96K + 4K ROM, 8K RAM, 64-pin QFP; Note: Set bits PACR2 to PACR0 in PACR register.  If PACR register isn't set up, input & output function of some pins disabled.; Published: 28-Aug-2009; DatasheetVersion: Rev.1.12, Mar-2007; PackageVersion: Sep-2005; PackageReference: PLQP0064KB-A; Publisher: Altium Limited; PackageDescription: 64-Pin Plastic Low Profile QFP, 10 x 10 x 1.4 mm Body, 0.5 mm Pitch; Code_JEITA: P-LQFP64-10x10-0.50; Code_IPC: SQFP50P1200X1200-64; ComponentLink1Description: Manufacturer Link; ComponentLink1URL: http://sg.renesas.com/fmwk.jsp?cnt=m16c_family_landing.jsp&fp=/products/mpumcu/m16c_family/; ComponentLink2Description: Datasheet; ComponentLink2URL: http://documentation.renesas.com/eng/products/mpumcu/rej09b0101_16c29hm.pdf; ComponentLink3Description: Packaging Specification; ComponentLink3URL: http://sg.renesas.com/media/products/common_info/package/pdf/ic/code/plqp0064kb_a.pdf
footprint PLQP0064KB-A_N (Shrink QFP, 64-Leads, Body 10x10mm, Pitch 0.5mm, IPC Medium Density)
footprint PLQP0064KB-A_L (Shrink QFP, 64-Leads, Body 10x10mm, Pitch 0.5mm, IPC High Density)
footprint PLQP0064KB-A_M (Shrink QFP, 64-Leads, Body 10x10mm, Pitch 0.5mm, IPC Low Density)
part A pins: 1 P9_1/AN3_1/TB1IN (io), 2 P9_0/AN3_0/TB0IN/CLKOUT (io), 3 CNVSS (in), 4 P8_7/XCIN (io), 5 P8_6/XCOUT (io), 6 ~{RESET} (in), 7 XOUT (out), 9 XIN (in), 11 P8_5/~{NMI}/~{SD} (io), 12 P8_4/~{INT}2/ZP (io), 13 P8_3/~{INT}1 (io), 14 P8_2/~{INT}0 (io), 15 P8_1/TA4IN/~{U} (io), 16 P8_0/TA4OUT/U (io), 17 P7_7/TA3IN (io), 18 P7_6/TA3OUT (io), 19 P7_5/TA2IN/~{W} (io), 20 P7_4/TA2OUT/W (io), 21 P7_3/~{CTS}2/~{RTS}2/TA1IN/~{V}/TxD1 (io), 22 P7_2/CLK2/TA1OUT/V/RxD1 (io), 23 P7_1/RxD2/SCL2/TA0IN/CLK1 (io), 24 P7_0/TxD2/TA0OUT/SDA2/~{CTS}1/~{RTS}1/~{CTS}0/CLKS1 (io), 25 P6_7/TxD1 (io), 26 P6_6/RxD1 (io), 27 P6_5/CLK1 (io), 28 P6_4/~{CTS}1/~{RTS}1/~{CTS}0/CLKS1 (io), 29 P3_3 (io), 30 P3_2/SOUT3 (io), 31 P3_1/SIN3 (io), 32 P3_0/CLK3 (io), 33 P6_3/TxD0 (io), 34 P6_2/RxD0 (io), 35 P6_1/CLK0 (io), 36 P6_0/~{CTS}0/~{RTS}0 (io), 37 P2_7/OUTC1_7/INPC1_7 (io), 38 P2_6/OUTC1_6/INPC1_6 (io), 39 P2_5/OUTC1_5/INPC1_5 (io), 40 P2_4/OUTC1_4/INPC1_4 (io), 41 P2_3/OUTC1_3/INPC1_3 (io), 42 P2_2/OUTC1_2/INPC1_2 (io), 43 P2_1/OUTC1_1/INPC1_1/SCLMM (io), 44 P2_0/OUTC1_0/INPC1_0/SDAMM (io), 45 P1_7/~{INT}5/INPC1_7/IDU (io), 46 P1_6/~{INT}4/IDW (io), 47 P1_5/~{INT}3/~{ADTRG}/IDV (io), 48 P0_3/AN0_3 (io), 49 P0_2/AN0_2 (io), 50 P0_1/AN0_1 (io), 51 P0_0/AN0_0 (io), 52 P10_7/~{KI}3/AN_7 (io), 53 P10_6/~{KI}2/AN_6 (io), 54 P10_5/~{KI}1/AN_5 (io), 55 P10_4/~{KI}0/AN_4 (io), 56 P10_3/AN_3 (io), 57 P10_2/AN_2 (io), 58 P10_1/AN_1 (io), 60 P10_0/AN_0 (io), 61 VREF (in), 63 P9_3/AN2_4/CTX (io), 64 P9_2/AN3_2/TB2IN/CRX (io)
part B pins: 8 VSS (power), 10 VCC (power), 59 AVSS (power), 62 AVCC (power)

## M30291FATHP
designator U?
Flash Memory M16C/Tiny Series, 29 Group MCU, 96K + 4K ROM, 8K RAM, 64-pin QFP, Version T; Note: Set bits PACR2 to PACR0 in PACR register.  If PACR register isn't set up, input & output function of some pins disabled.; Published: 28-Aug-2009; DatasheetVersion: Rev.1.12, Mar-2007; PackageVersion: Sep-2005; PackageReference: PLQP0064KB-A; Publisher: Altium Limited; PackageDescription: 64-Pin Plastic Low Profile QFP, 10 x 10 x 1.4 mm Body, 0.5 mm Pitch; Supplier 1: Digi-Key; Supplier Part Number 1: M30291FATHP-ND; Code_JEITA: P-LQFP64-10x10-0.50; Code_IPC: SQFP50P1200X1200-64; ComponentLink1Description: Manufacturer Link; ComponentLink1URL: http://sg.renesas.com/fmwk.jsp?cnt=m16c_family_landing.jsp&fp=/products/mpumcu/m16c_family/; ComponentLink2Description: Datasheet; ComponentLink2URL: http://documentation.renesas.com/eng/products/mpumcu/rej09b0101_16c29hm.pdf; ComponentLink3Description: Packaging Specification; ComponentLink3URL: http://sg.renesas.com/media/products/common_info/package/pdf/ic/code/plqp0064kb_a.pdf
footprint PLQP0064KB-A_N (Shrink QFP, 64-Leads, Body 10x10mm, Pitch 0.5mm, IPC Medium Density)
footprint PLQP0064KB-A_L (Shrink QFP, 64-Leads, Body 10x10mm, Pitch 0.5mm, IPC High Density)
footprint PLQP0064KB-A_M (Shrink QFP, 64-Leads, Body 10x10mm, Pitch 0.5mm, IPC Low Density)
part A pins: 1 P9_1/AN3_1/TB1IN (io), 2 P9_0/AN3_0/TB0IN/CLKOUT (io), 3 CNVSS (in), 4 P8_7/XCIN (io), 5 P8_6/XCOUT (io), 6 ~{RESET} (in), 7 XOUT (out), 9 XIN (in), 11 P8_5/~{NMI}/~{SD} (io), 12 P8_4/~{INT}2/ZP (io), 13 P8_3/~{INT}1 (io), 14 P8_2/~{INT}0 (io), 15 P8_1/TA4IN/~{U} (io), 16 P8_0/TA4OUT/U (io), 17 P7_7/TA3IN (io), 18 P7_6/TA3OUT (io), 19 P7_5/TA2IN/~{W} (io), 20 P7_4/TA2OUT/W (io), 21 P7_3/~{CTS}2/~{RTS}2/TA1IN/~{V}/TxD1 (io), 22 P7_2/CLK2/TA1OUT/V/RxD1 (io), 23 P7_1/RxD2/SCL2/TA0IN/CLK1 (io), 24 P7_0/TxD2/TA0OUT/SDA2/~{CTS}1/~{RTS}1/~{CTS}0/CLKS1 (io), 25 P6_7/TxD1 (io), 26 P6_6/RxD1 (io), 27 P6_5/CLK1 (io), 28 P6_4/~{CTS}1/~{RTS}1/~{CTS}0/CLKS1 (io), 29 P3_3 (io), 30 P3_2/SOUT3 (io), 31 P3_1/SIN3 (io), 32 P3_0/CLK3 (io), 33 P6_3/TxD0 (io), 34 P6_2/RxD0 (io), 35 P6_1/CLK0 (io), 36 P6_0/~{CTS}0/~{RTS}0 (io), 37 P2_7/OUTC1_7/INPC1_7 (io), 38 P2_6/OUTC1_6/INPC1_6 (io), 39 P2_5/OUTC1_5/INPC1_5 (io), 40 P2_4/OUTC1_4/INPC1_4 (io), 41 P2_3/OUTC1_3/INPC1_3 (io), 42 P2_2/OUTC1_2/INPC1_2 (io), 43 P2_1/OUTC1_1/INPC1_1/SCLMM (io), 44 P2_0/OUTC1_0/INPC1_0/SDAMM (io), 45 P1_7/~{INT}5/INPC1_7/IDU (io), 46 P1_6/~{INT}4/IDW (io), 47 P1_5/~{INT}3/~{ADTRG}/IDV (io), 48 P0_3/AN0_3 (io), 49 P0_2/AN0_2 (io), 50 P0_1/AN0_1 (io), 51 P0_0/AN0_0 (io), 52 P10_7/~{KI}3/AN_7 (io), 53 P10_6/~{KI}2/AN_6 (io), 54 P10_5/~{KI}1/AN_5 (io), 55 P10_4/~{KI}0/AN_4 (io), 56 P10_3/AN_3 (io), 57 P10_2/AN_2 (io), 58 P10_1/AN_1 (io), 60 P10_0/AN_0 (io), 61 VREF (in), 63 P9_3/AN2_4/CTX (io), 64 P9_2/AN3_2/TB2IN/CRX (io)
part B pins: 8 VSS (power), 10 VCC (power), 59 AVSS (power), 62 AVCC (power)

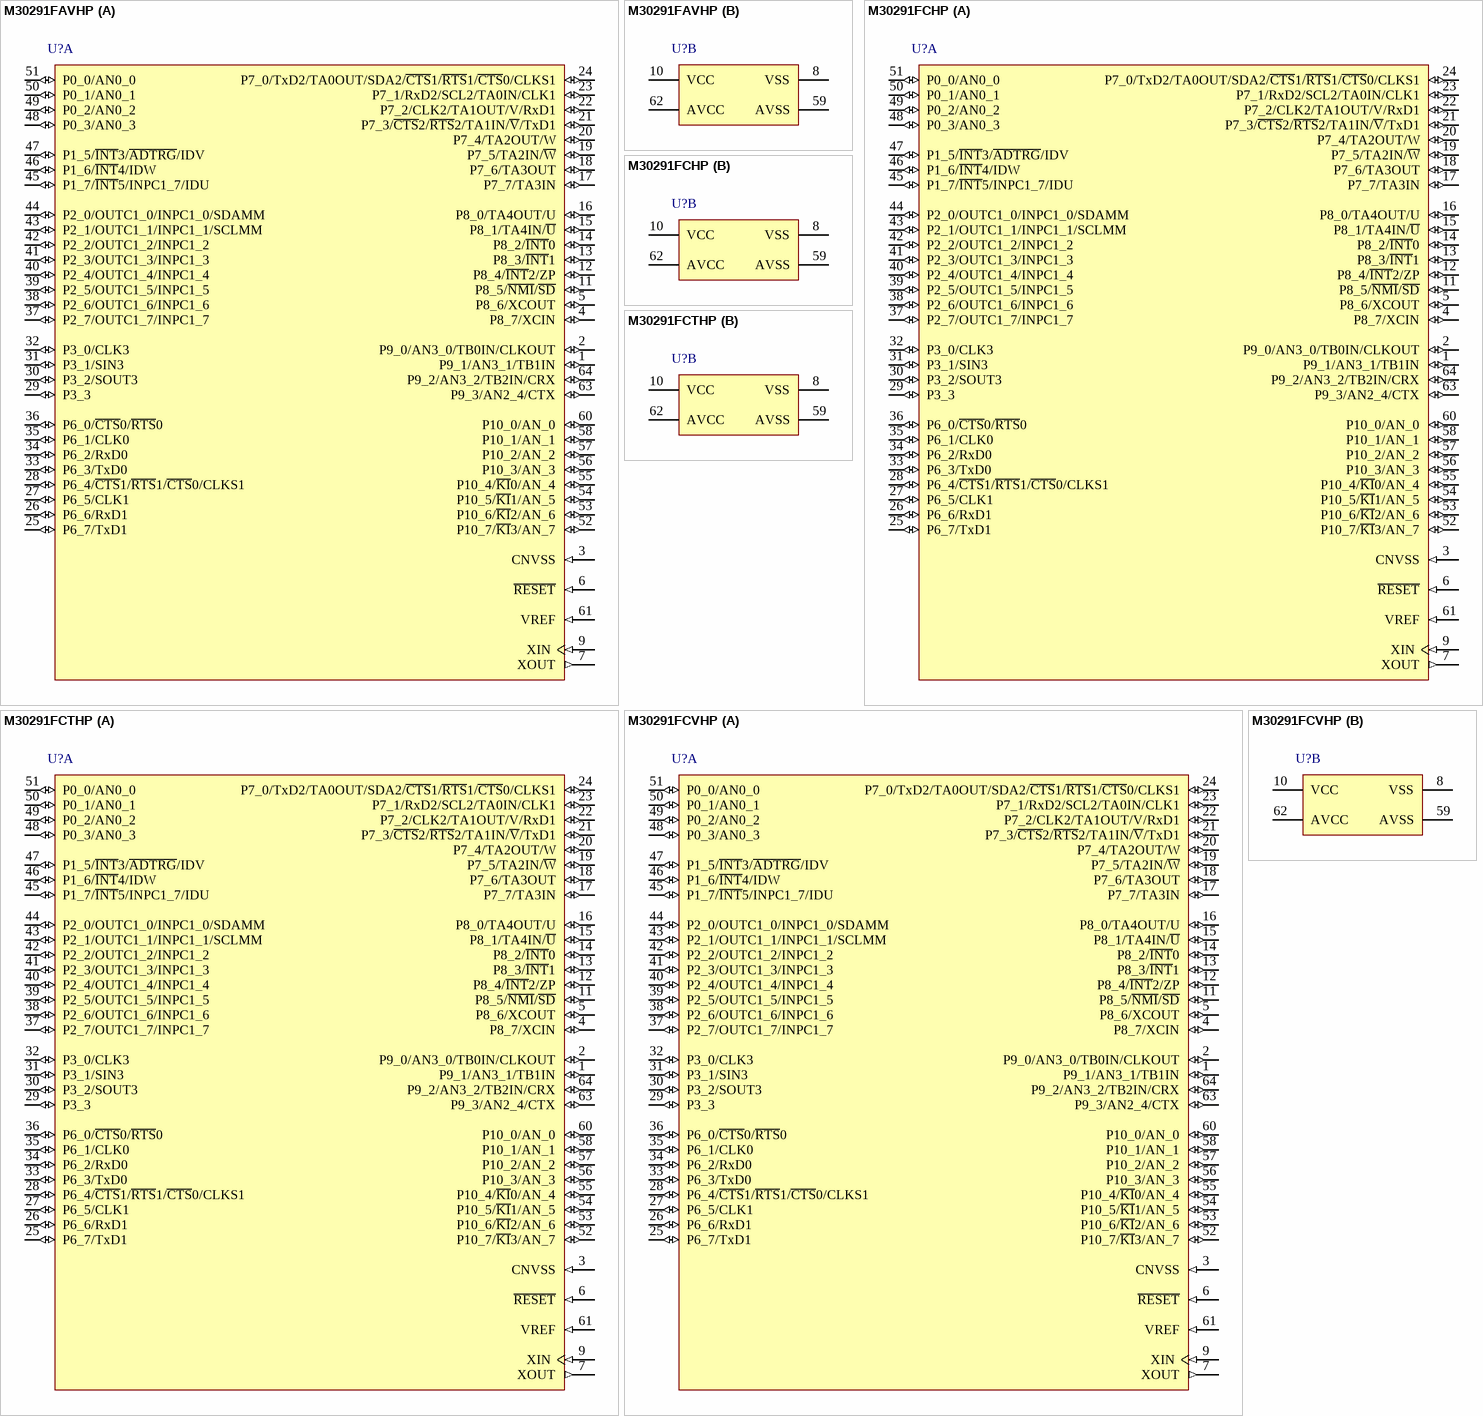
[diagram p54: symbols M30291FAVHP to M30291FCVHP]

## M30291FAVHP
designator U?
Flash Memory M16C/Tiny Series, 29 Group MCU, 96K + 4K ROM, 8K RAM, 64-pin QFP, Version V; Note: Set bits PACR2 to PACR0 in PACR register.  If PACR register isn't set up, input & output function of some pins disabled.; Published: 28-Aug-2009; DatasheetVersion: Rev.1.12, Mar-2007; PackageVersion: Sep-2005; PackageReference: PLQP0064KB-A; Publisher: Altium Limited; PackageDescription: 64-Pin Plastic Low Profile QFP, 10 x 10 x 1.4 mm Body, 0.5 mm Pitch; Supplier 1: Digi-Key; Supplier Part Number 1: M30291FAVHP-ND; Code_JEITA: P-LQFP64-10x10-0.50; Code_IPC: SQFP50P1200X1200-64; ComponentLink1Description: Manufacturer Link; ComponentLink1URL: http://sg.renesas.com/fmwk.jsp?cnt=m16c_family_landing.jsp&fp=/products/mpumcu/m16c_family/; ComponentLink2Description: Datasheet; ComponentLink2URL: http://documentation.renesas.com/eng/products/mpumcu/rej09b0101_16c29hm.pdf; ComponentLink3Description: Packaging Specification; ComponentLink3URL: http://sg.renesas.com/media/products/common_info/package/pdf/ic/code/plqp0064kb_a.pdf
footprint PLQP0064KB-A_N (Shrink QFP, 64-Leads, Body 10x10mm, Pitch 0.5mm, IPC Medium Density)
footprint PLQP0064KB-A_L (Shrink QFP, 64-Leads, Body 10x10mm, Pitch 0.5mm, IPC High Density)
footprint PLQP0064KB-A_M (Shrink QFP, 64-Leads, Body 10x10mm, Pitch 0.5mm, IPC Low Density)
part A pins: 1 P9_1/AN3_1/TB1IN (io), 2 P9_0/AN3_0/TB0IN/CLKOUT (io), 3 CNVSS (in), 4 P8_7/XCIN (io), 5 P8_6/XCOUT (io), 6 ~{RESET} (in), 7 XOUT (out), 9 XIN (in), 11 P8_5/~{NMI}/~{SD} (io), 12 P8_4/~{INT}2/ZP (io), 13 P8_3/~{INT}1 (io), 14 P8_2/~{INT}0 (io), 15 P8_1/TA4IN/~{U} (io), 16 P8_0/TA4OUT/U (io), 17 P7_7/TA3IN (io), 18 P7_6/TA3OUT (io), 19 P7_5/TA2IN/~{W} (io), 20 P7_4/TA2OUT/W (io), 21 P7_3/~{CTS}2/~{RTS}2/TA1IN/~{V}/TxD1 (io), 22 P7_2/CLK2/TA1OUT/V/RxD1 (io), 23 P7_1/RxD2/SCL2/TA0IN/CLK1 (io), 24 P7_0/TxD2/TA0OUT/SDA2/~{CTS}1/~{RTS}1/~{CTS}0/CLKS1 (io), 25 P6_7/TxD1 (io), 26 P6_6/RxD1 (io), 27 P6_5/CLK1 (io), 28 P6_4/~{CTS}1/~{RTS}1/~{CTS}0/CLKS1 (io), 29 P3_3 (io), 30 P3_2/SOUT3 (io), 31 P3_1/SIN3 (io), 32 P3_0/CLK3 (io), 33 P6_3/TxD0 (io), 34 P6_2/RxD0 (io), 35 P6_1/CLK0 (io), 36 P6_0/~{CTS}0/~{RTS}0 (io), 37 P2_7/OUTC1_7/INPC1_7 (io), 38 P2_6/OUTC1_6/INPC1_6 (io), 39 P2_5/OUTC1_5/INPC1_5 (io), 40 P2_4/OUTC1_4/INPC1_4 (io), 41 P2_3/OUTC1_3/INPC1_3 (io), 42 P2_2/OUTC1_2/INPC1_2 (io), 43 P2_1/OUTC1_1/INPC1_1/SCLMM (io), 44 P2_0/OUTC1_0/INPC1_0/SDAMM (io), 45 P1_7/~{INT}5/INPC1_7/IDU (io), 46 P1_6/~{INT}4/IDW (io), 47 P1_5/~{INT}3/~{ADTRG}/IDV (io), 48 P0_3/AN0_3 (io), 49 P0_2/AN0_2 (io), 50 P0_1/AN0_1 (io), 51 P0_0/AN0_0 (io), 52 P10_7/~{KI}3/AN_7 (io), 53 P10_6/~{KI}2/AN_6 (io), 54 P10_5/~{KI}1/AN_5 (io), 55 P10_4/~{KI}0/AN_4 (io), 56 P10_3/AN_3 (io), 57 P10_2/AN_2 (io), 58 P10_1/AN_1 (io), 60 P10_0/AN_0 (io), 61 VREF (in), 63 P9_3/AN2_4/CTX (io), 64 P9_2/AN3_2/TB2IN/CRX (io)
part B pins: 8 VSS (power), 10 VCC (power), 59 AVSS (power), 62 AVCC (power)

## M30291FCHP
designator U?
Flash Memory M16C/Tiny Series, 29 Group MCU, 128K + 4K ROM, 12K RAM, 64-pin QFP; Note: Set bits PACR2 to PACR0 in PACR register.  If PACR register isn't set up, input & output function of some pins disabled.; Published: 28-Aug-2009; DatasheetVersion: Rev.1.12, Mar-2007; PackageVersion: Sep-2005; PackageReference: PLQP0064KB-A; Publisher: Altium Limited; PackageDescription: 64-Pin Plastic Low Profile QFP, 10 x 10 x 1.4 mm Body, 0.5 mm Pitch; Code_JEITA: P-LQFP64-10x10-0.50; Code_IPC: SQFP50P1200X1200-64; ComponentLink1Description: Manufacturer Link; ComponentLink1URL: http://sg.renesas.com/fmwk.jsp?cnt=m16c_family_landing.jsp&fp=/products/mpumcu/m16c_family/; ComponentLink2Description: Datasheet; ComponentLink2URL: http://documentation.renesas.com/eng/products/mpumcu/rej09b0101_16c29hm.pdf; ComponentLink3Description: Packaging Specification; ComponentLink3URL: http://sg.renesas.com/media/products/common_info/package/pdf/ic/code/plqp0064kb_a.pdf
footprint PLQP0064KB-A_N (Shrink QFP, 64-Leads, Body 10x10mm, Pitch 0.5mm, IPC Medium Density)
footprint PLQP0064KB-A_L (Shrink QFP, 64-Leads, Body 10x10mm, Pitch 0.5mm, IPC High Density)
footprint PLQP0064KB-A_M (Shrink QFP, 64-Leads, Body 10x10mm, Pitch 0.5mm, IPC Low Density)
part A pins: 1 P9_1/AN3_1/TB1IN (io), 2 P9_0/AN3_0/TB0IN/CLKOUT (io), 3 CNVSS (in), 4 P8_7/XCIN (io), 5 P8_6/XCOUT (io), 6 ~{RESET} (in), 7 XOUT (out), 9 XIN (in), 11 P8_5/~{NMI}/~{SD} (io), 12 P8_4/~{INT}2/ZP (io), 13 P8_3/~{INT}1 (io), 14 P8_2/~{INT}0 (io), 15 P8_1/TA4IN/~{U} (io), 16 P8_0/TA4OUT/U (io), 17 P7_7/TA3IN (io), 18 P7_6/TA3OUT (io), 19 P7_5/TA2IN/~{W} (io), 20 P7_4/TA2OUT/W (io), 21 P7_3/~{CTS}2/~{RTS}2/TA1IN/~{V}/TxD1 (io), 22 P7_2/CLK2/TA1OUT/V/RxD1 (io), 23 P7_1/RxD2/SCL2/TA0IN/CLK1 (io), 24 P7_0/TxD2/TA0OUT/SDA2/~{CTS}1/~{RTS}1/~{CTS}0/CLKS1 (io), 25 P6_7/TxD1 (io), 26 P6_6/RxD1 (io), 27 P6_5/CLK1 (io), 28 P6_4/~{CTS}1/~{RTS}1/~{CTS}0/CLKS1 (io), 29 P3_3 (io), 30 P3_2/SOUT3 (io), 31 P3_1/SIN3 (io), 32 P3_0/CLK3 (io), 33 P6_3/TxD0 (io), 34 P6_2/RxD0 (io), 35 P6_1/CLK0 (io), 36 P6_0/~{CTS}0/~{RTS}0 (io), 37 P2_7/OUTC1_7/INPC1_7 (io), 38 P2_6/OUTC1_6/INPC1_6 (io), 39 P2_5/OUTC1_5/INPC1_5 (io), 40 P2_4/OUTC1_4/INPC1_4 (io), 41 P2_3/OUTC1_3/INPC1_3 (io), 42 P2_2/OUTC1_2/INPC1_2 (io), 43 P2_1/OUTC1_1/INPC1_1/SCLMM (io), 44 P2_0/OUTC1_0/INPC1_0/SDAMM (io), 45 P1_7/~{INT}5/INPC1_7/IDU (io), 46 P1_6/~{INT}4/IDW (io), 47 P1_5/~{INT}3/~{ADTRG}/IDV (io), 48 P0_3/AN0_3 (io), 49 P0_2/AN0_2 (io), 50 P0_1/AN0_1 (io), 51 P0_0/AN0_0 (io), 52 P10_7/~{KI}3/AN_7 (io), 53 P10_6/~{KI}2/AN_6 (io), 54 P10_5/~{KI}1/AN_5 (io), 55 P10_4/~{KI}0/AN_4 (io), 56 P10_3/AN_3 (io), 57 P10_2/AN_2 (io), 58 P10_1/AN_1 (io), 60 P10_0/AN_0 (io), 61 VREF (in), 63 P9_3/AN2_4/CTX (io), 64 P9_2/AN3_2/TB2IN/CRX (io)
part B pins: 8 VSS (power), 10 VCC (power), 59 AVSS (power), 62 AVCC (power)

## M30291FCTHP
designator U?
Flash Memory M16C/Tiny Series, 29 Group MCU, 128K + 4K ROM, 12K RAM, 64-pin QFP, Version T; Note: Set bits PACR2 to PACR0 in PACR register.  If PACR register isn't set up, input & output function of some pins disabled.; Published: 28-Aug-2009; DatasheetVersion: Rev.1.12, Mar-2007; PackageVersion: Sep-2005; PackageReference: PLQP0064KB-A; Publisher: Altium Limited; PackageDescription: 64-Pin Plastic Low Profile QFP, 10 x 10 x 1.4 mm Body, 0.5 mm Pitch; Code_JEITA: P-LQFP64-10x10-0.50; Code_IPC: SQFP50P1200X1200-64; ComponentLink1Description: Manufacturer Link; ComponentLink1URL: http://sg.renesas.com/fmwk.jsp?cnt=m16c_family_landing.jsp&fp=/products/mpumcu/m16c_family/; ComponentLink2Description: Datasheet; ComponentLink2URL: http://documentation.renesas.com/eng/products/mpumcu/rej09b0101_16c29hm.pdf; ComponentLink3Description: Packaging Specification; ComponentLink3URL: http://sg.renesas.com/media/products/common_info/package/pdf/ic/code/plqp0064kb_a.pdf
footprint PLQP0064KB-A_N (Shrink QFP, 64-Leads, Body 10x10mm, Pitch 0.5mm, IPC Medium Density)
footprint PLQP0064KB-A_L (Shrink QFP, 64-Leads, Body 10x10mm, Pitch 0.5mm, IPC High Density)
footprint PLQP0064KB-A_M (Shrink QFP, 64-Leads, Body 10x10mm, Pitch 0.5mm, IPC Low Density)
part A pins: 1 P9_1/AN3_1/TB1IN (io), 2 P9_0/AN3_0/TB0IN/CLKOUT (io), 3 CNVSS (in), 4 P8_7/XCIN (io), 5 P8_6/XCOUT (io), 6 ~{RESET} (in), 7 XOUT (out), 9 XIN (in), 11 P8_5/~{NMI}/~{SD} (io), 12 P8_4/~{INT}2/ZP (io), 13 P8_3/~{INT}1 (io), 14 P8_2/~{INT}0 (io), 15 P8_1/TA4IN/~{U} (io), 16 P8_0/TA4OUT/U (io), 17 P7_7/TA3IN (io), 18 P7_6/TA3OUT (io), 19 P7_5/TA2IN/~{W} (io), 20 P7_4/TA2OUT/W (io), 21 P7_3/~{CTS}2/~{RTS}2/TA1IN/~{V}/TxD1 (io), 22 P7_2/CLK2/TA1OUT/V/RxD1 (io), 23 P7_1/RxD2/SCL2/TA0IN/CLK1 (io), 24 P7_0/TxD2/TA0OUT/SDA2/~{CTS}1/~{RTS}1/~{CTS}0/CLKS1 (io), 25 P6_7/TxD1 (io), 26 P6_6/RxD1 (io), 27 P6_5/CLK1 (io), 28 P6_4/~{CTS}1/~{RTS}1/~{CTS}0/CLKS1 (io), 29 P3_3 (io), 30 P3_2/SOUT3 (io), 31 P3_1/SIN3 (io), 32 P3_0/CLK3 (io), 33 P6_3/TxD0 (io), 34 P6_2/RxD0 (io), 35 P6_1/CLK0 (io), 36 P6_0/~{CTS}0/~{RTS}0 (io), 37 P2_7/OUTC1_7/INPC1_7 (io), 38 P2_6/OUTC1_6/INPC1_6 (io), 39 P2_5/OUTC1_5/INPC1_5 (io), 40 P2_4/OUTC1_4/INPC1_4 (io), 41 P2_3/OUTC1_3/INPC1_3 (io), 42 P2_2/OUTC1_2/INPC1_2 (io), 43 P2_1/OUTC1_1/INPC1_1/SCLMM (io), 44 P2_0/OUTC1_0/INPC1_0/SDAMM (io), 45 P1_7/~{INT}5/INPC1_7/IDU (io), 46 P1_6/~{INT}4/IDW (io), 47 P1_5/~{INT}3/~{ADTRG}/IDV (io), 48 P0_3/AN0_3 (io), 49 P0_2/AN0_2 (io), 50 P0_1/AN0_1 (io), 51 P0_0/AN0_0 (io), 52 P10_7/~{KI}3/AN_7 (io), 53 P10_6/~{KI}2/AN_6 (io), 54 P10_5/~{KI}1/AN_5 (io), 55 P10_4/~{KI}0/AN_4 (io), 56 P10_3/AN_3 (io), 57 P10_2/AN_2 (io), 58 P10_1/AN_1 (io), 60 P10_0/AN_0 (io), 61 VREF (in), 63 P9_3/AN2_4/CTX (io), 64 P9_2/AN3_2/TB2IN/CRX (io)
part B pins: 8 VSS (power), 10 VCC (power), 59 AVSS (power), 62 AVCC (power)

## M30291FCVHP
designator U?
Flash Memory M16C/Tiny Series, 29 Group MCU, 128K + 4K ROM, 12K RAM, 64-pin QFP, Version V; Note: Set bits PACR2 to PACR0 in PACR register.  If PACR register isn't set up, input & output function of some pins disabled.; Published: 28-Aug-2009; DatasheetVersion: Rev.1.12, Mar-2007; PackageVersion: Sep-2005; PackageReference: PLQP0064KB-A; Publisher: Altium Limited; PackageDescription: 64-Pin Plastic Low Profile QFP, 10 x 10 x 1.4 mm Body, 0.5 mm Pitch; Code_JEITA: P-LQFP64-10x10-0.50; Code_IPC: SQFP50P1200X1200-64; ComponentLink1Description: Manufacturer Link; ComponentLink1URL: http://sg.renesas.com/fmwk.jsp?cnt=m16c_family_landing.jsp&fp=/products/mpumcu/m16c_family/; ComponentLink2Description: Datasheet; ComponentLink2URL: http://documentation.renesas.com/eng/products/mpumcu/rej09b0101_16c29hm.pdf; ComponentLink3Description: Packaging Specification; ComponentLink3URL: http://sg.renesas.com/media/products/common_info/package/pdf/ic/code/plqp0064kb_a.pdf
footprint PLQP0064KB-A_N (Shrink QFP, 64-Leads, Body 10x10mm, Pitch 0.5mm, IPC Medium Density)
footprint PLQP0064KB-A_L (Shrink QFP, 64-Leads, Body 10x10mm, Pitch 0.5mm, IPC High Density)
footprint PLQP0064KB-A_M (Shrink QFP, 64-Leads, Body 10x10mm, Pitch 0.5mm, IPC Low Density)
part A pins: 1 P9_1/AN3_1/TB1IN (io), 2 P9_0/AN3_0/TB0IN/CLKOUT (io), 3 CNVSS (in), 4 P8_7/XCIN (io), 5 P8_6/XCOUT (io), 6 ~{RESET} (in), 7 XOUT (out), 9 XIN (in), 11 P8_5/~{NMI}/~{SD} (io), 12 P8_4/~{INT}2/ZP (io), 13 P8_3/~{INT}1 (io), 14 P8_2/~{INT}0 (io), 15 P8_1/TA4IN/~{U} (io), 16 P8_0/TA4OUT/U (io), 17 P7_7/TA3IN (io), 18 P7_6/TA3OUT (io), 19 P7_5/TA2IN/~{W} (io), 20 P7_4/TA2OUT/W (io), 21 P7_3/~{CTS}2/~{RTS}2/TA1IN/~{V}/TxD1 (io), 22 P7_2/CLK2/TA1OUT/V/RxD1 (io), 23 P7_1/RxD2/SCL2/TA0IN/CLK1 (io), 24 P7_0/TxD2/TA0OUT/SDA2/~{CTS}1/~{RTS}1/~{CTS}0/CLKS1 (io), 25 P6_7/TxD1 (io), 26 P6_6/RxD1 (io), 27 P6_5/CLK1 (io), 28 P6_4/~{CTS}1/~{RTS}1/~{CTS}0/CLKS1 (io), 29 P3_3 (io), 30 P3_2/SOUT3 (io), 31 P3_1/SIN3 (io), 32 P3_0/CLK3 (io), 33 P6_3/TxD0 (io), 34 P6_2/RxD0 (io), 35 P6_1/CLK0 (io), 36 P6_0/~{CTS}0/~{RTS}0 (io), 37 P2_7/OUTC1_7/INPC1_7 (io), 38 P2_6/OUTC1_6/INPC1_6 (io), 39 P2_5/OUTC1_5/INPC1_5 (io), 40 P2_4/OUTC1_4/INPC1_4 (io), 41 P2_3/OUTC1_3/INPC1_3 (io), 42 P2_2/OUTC1_2/INPC1_2 (io), 43 P2_1/OUTC1_1/INPC1_1/SCLMM (io), 44 P2_0/OUTC1_0/INPC1_0/SDAMM (io), 45 P1_7/~{INT}5/INPC1_7/IDU (io), 46 P1_6/~{INT}4/IDW (io), 47 P1_5/~{INT}3/~{ADTRG}/IDV (io), 48 P0_3/AN0_3 (io), 49 P0_2/AN0_2 (io), 50 P0_1/AN0_1 (io), 51 P0_0/AN0_0 (io), 52 P10_7/~{KI}3/AN_7 (io), 53 P10_6/~{KI}2/AN_6 (io), 54 P10_5/~{KI}1/AN_5 (io), 55 P10_4/~{KI}0/AN_4 (io), 56 P10_3/AN_3 (io), 57 P10_2/AN_2 (io), 58 P10_1/AN_1 (io), 60 P10_0/AN_0 (io), 61 VREF (in), 63 P9_3/AN2_4/CTX (io), 64 P9_2/AN3_2/TB2IN/CRX (io)
part B pins: 8 VSS (power), 10 VCC (power), 59 AVSS (power), 62 AVCC (power)

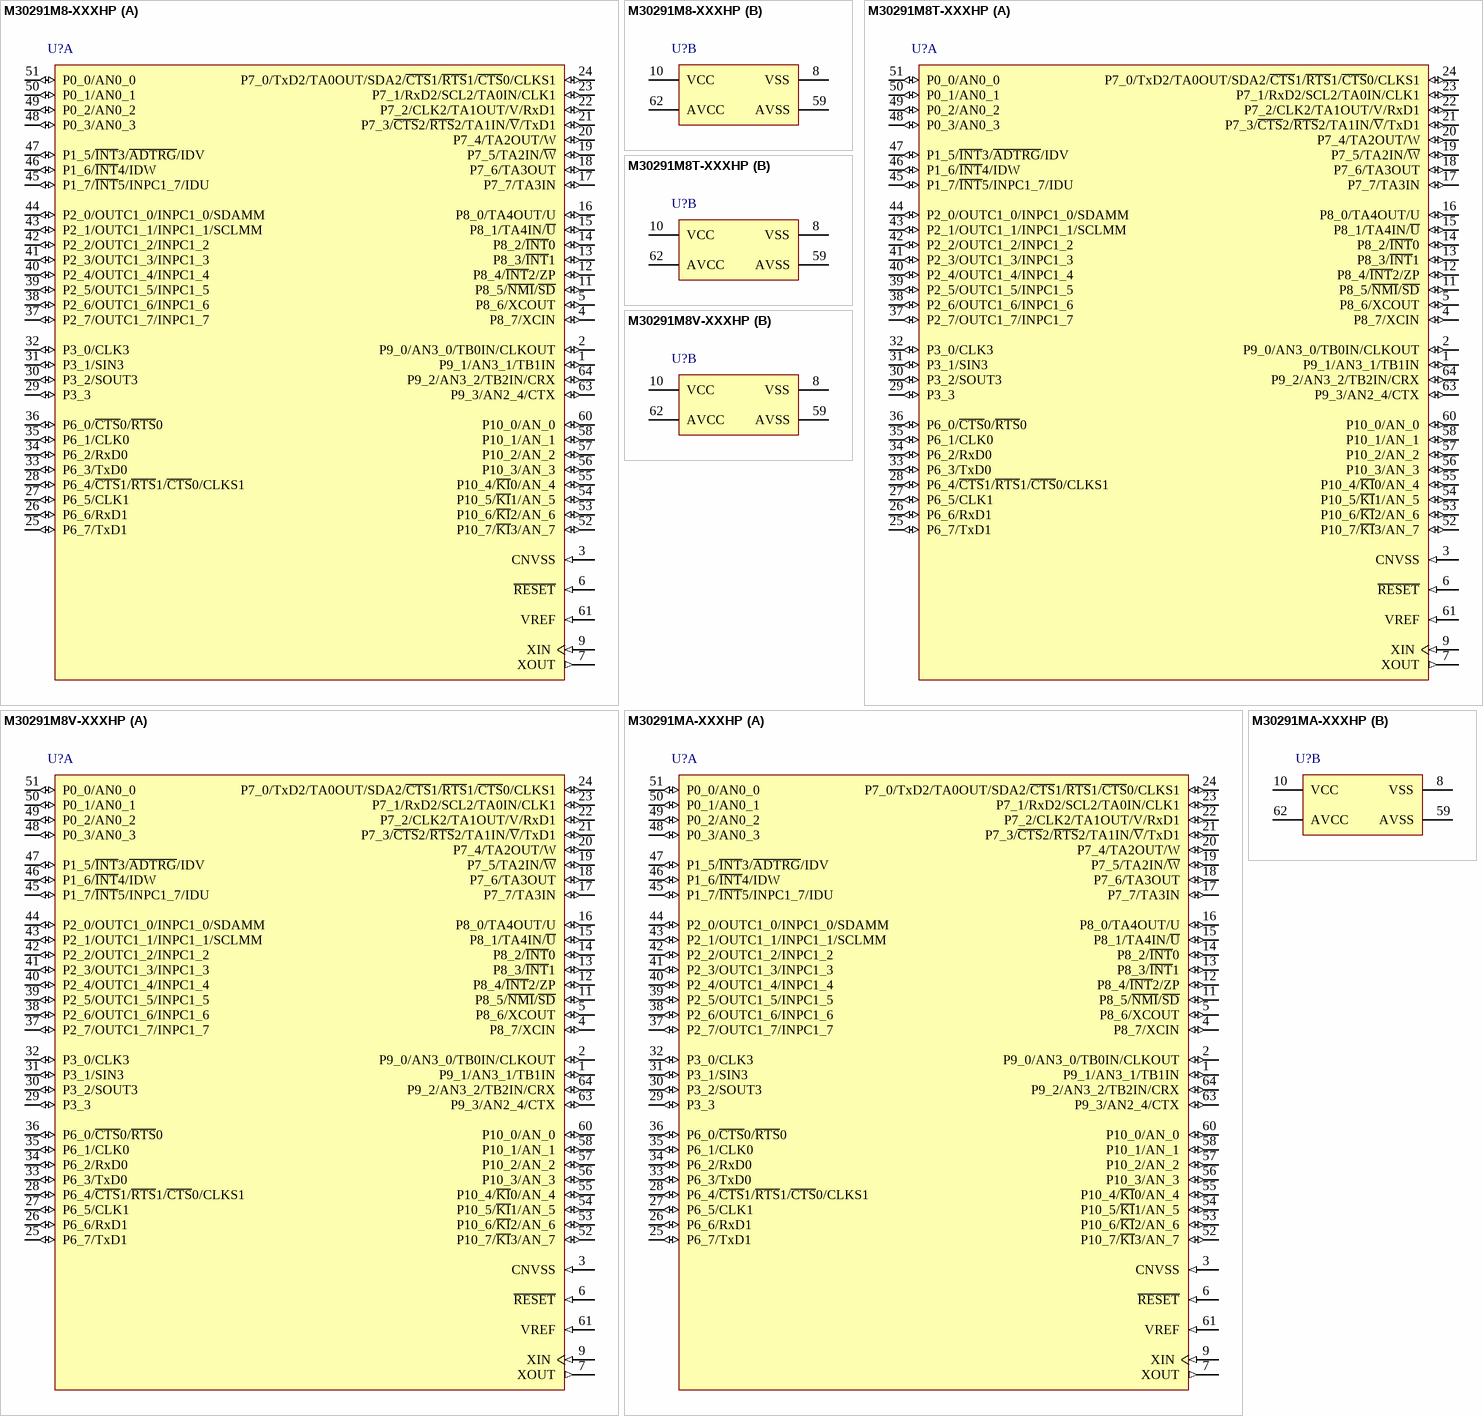
[diagram p55: symbols M30291M8-XXXHP to M30291MA-XXXHP]

## M30291M8-XXXHP
designator U?
Mask ROM M16C/Tiny Series, 29 Group MCU, 64K ROM, 4K RAM, 64-pin QFP; Note: Set bits PACR2 to PACR0 in PACR register.  If PACR register isn't set up, input & output function of some pins disabled.; Published: 28-Aug-2009; DatasheetVersion: Rev.1.12, Mar-2007; PackageVersion: Sep-2005; PackageReference: PLQP0064KB-A; Publisher: Altium Limited; PackageDescription: 64-Pin Plastic Low Profile QFP, 10 x 10 x 1.4 mm Body, 0.5 mm Pitch; Code_JEITA: P-LQFP64-10x10-0.50; Code_IPC: SQFP50P1200X1200-64; ComponentLink1Description: Manufacturer Link; ComponentLink1URL: http://sg.renesas.com/fmwk.jsp?cnt=m16c_family_landing.jsp&fp=/products/mpumcu/m16c_family/; ComponentLink2Description: Datasheet; ComponentLink2URL: http://documentation.renesas.com/eng/products/mpumcu/rej09b0101_16c29hm.pdf; ComponentLink3Description: Packaging Specification; ComponentLink3URL: http://sg.renesas.com/media/products/common_info/package/pdf/ic/code/plqp0064kb_a.pdf
footprint PLQP0064KB-A_N (Shrink QFP, 64-Leads, Body 10x10mm, Pitch 0.5mm, IPC Medium Density)
footprint PLQP0064KB-A_L (Shrink QFP, 64-Leads, Body 10x10mm, Pitch 0.5mm, IPC High Density)
footprint PLQP0064KB-A_M (Shrink QFP, 64-Leads, Body 10x10mm, Pitch 0.5mm, IPC Low Density)
part A pins: 1 P9_1/AN3_1/TB1IN (io), 2 P9_0/AN3_0/TB0IN/CLKOUT (io), 3 CNVSS (in), 4 P8_7/XCIN (io), 5 P8_6/XCOUT (io), 6 ~{RESET} (in), 7 XOUT (out), 9 XIN (in), 11 P8_5/~{NMI}/~{SD} (io), 12 P8_4/~{INT}2/ZP (io), 13 P8_3/~{INT}1 (io), 14 P8_2/~{INT}0 (io), 15 P8_1/TA4IN/~{U} (io), 16 P8_0/TA4OUT/U (io), 17 P7_7/TA3IN (io), 18 P7_6/TA3OUT (io), 19 P7_5/TA2IN/~{W} (io), 20 P7_4/TA2OUT/W (io), 21 P7_3/~{CTS}2/~{RTS}2/TA1IN/~{V}/TxD1 (io), 22 P7_2/CLK2/TA1OUT/V/RxD1 (io), 23 P7_1/RxD2/SCL2/TA0IN/CLK1 (io), 24 P7_0/TxD2/TA0OUT/SDA2/~{CTS}1/~{RTS}1/~{CTS}0/CLKS1 (io), 25 P6_7/TxD1 (io), 26 P6_6/RxD1 (io), 27 P6_5/CLK1 (io), 28 P6_4/~{CTS}1/~{RTS}1/~{CTS}0/CLKS1 (io), 29 P3_3 (io), 30 P3_2/SOUT3 (io), 31 P3_1/SIN3 (io), 32 P3_0/CLK3 (io), 33 P6_3/TxD0 (io), 34 P6_2/RxD0 (io), 35 P6_1/CLK0 (io), 36 P6_0/~{CTS}0/~{RTS}0 (io), 37 P2_7/OUTC1_7/INPC1_7 (io), 38 P2_6/OUTC1_6/INPC1_6 (io), 39 P2_5/OUTC1_5/INPC1_5 (io), 40 P2_4/OUTC1_4/INPC1_4 (io), 41 P2_3/OUTC1_3/INPC1_3 (io), 42 P2_2/OUTC1_2/INPC1_2 (io), 43 P2_1/OUTC1_1/INPC1_1/SCLMM (io), 44 P2_0/OUTC1_0/INPC1_0/SDAMM (io), 45 P1_7/~{INT}5/INPC1_7/IDU (io), 46 P1_6/~{INT}4/IDW (io), 47 P1_5/~{INT}3/~{ADTRG}/IDV (io), 48 P0_3/AN0_3 (io), 49 P0_2/AN0_2 (io), 50 P0_1/AN0_1 (io), 51 P0_0/AN0_0 (io), 52 P10_7/~{KI}3/AN_7 (io), 53 P10_6/~{KI}2/AN_6 (io), 54 P10_5/~{KI}1/AN_5 (io), 55 P10_4/~{KI}0/AN_4 (io), 56 P10_3/AN_3 (io), 57 P10_2/AN_2 (io), 58 P10_1/AN_1 (io), 60 P10_0/AN_0 (io), 61 VREF (in), 63 P9_3/AN2_4/CTX (io), 64 P9_2/AN3_2/TB2IN/CRX (io)
part B pins: 8 VSS (power), 10 VCC (power), 59 AVSS (power), 62 AVCC (power)

## M30291M8T-XXXHP
designator U?
Mask ROM M16C/Tiny Series, 29 Group MCU, 64K ROM, 4K RAM, 64-pin QFP, Version T; Note: Set bits PACR2 to PACR0 in PACR register.  If PACR register isn't set up, input & output function of some pins disabled.; Published: 28-Aug-2009; DatasheetVersion: Rev.1.12, Mar-2007; PackageVersion: Sep-2005; PackageReference: PLQP0064KB-A; Publisher: Altium Limited; PackageDescription: 64-Pin Plastic Low Profile QFP, 10 x 10 x 1.4 mm Body, 0.5 mm Pitch; Code_JEITA: P-LQFP64-10x10-0.50; Code_IPC: SQFP50P1200X1200-64; ComponentLink1Description: Manufacturer Link; ComponentLink1URL: http://sg.renesas.com/fmwk.jsp?cnt=m16c_family_landing.jsp&fp=/products/mpumcu/m16c_family/; ComponentLink2Description: Datasheet; ComponentLink2URL: http://documentation.renesas.com/eng/products/mpumcu/rej09b0101_16c29hm.pdf; ComponentLink3Description: Packaging Specification; ComponentLink3URL: http://sg.renesas.com/media/products/common_info/package/pdf/ic/code/plqp0064kb_a.pdf
footprint PLQP0064KB-A_N (Shrink QFP, 64-Leads, Body 10x10mm, Pitch 0.5mm, IPC Medium Density)
footprint PLQP0064KB-A_L (Shrink QFP, 64-Leads, Body 10x10mm, Pitch 0.5mm, IPC High Density)
footprint PLQP0064KB-A_M (Shrink QFP, 64-Leads, Body 10x10mm, Pitch 0.5mm, IPC Low Density)
part A pins: 1 P9_1/AN3_1/TB1IN (io), 2 P9_0/AN3_0/TB0IN/CLKOUT (io), 3 CNVSS (in), 4 P8_7/XCIN (io), 5 P8_6/XCOUT (io), 6 ~{RESET} (in), 7 XOUT (out), 9 XIN (in), 11 P8_5/~{NMI}/~{SD} (io), 12 P8_4/~{INT}2/ZP (io), 13 P8_3/~{INT}1 (io), 14 P8_2/~{INT}0 (io), 15 P8_1/TA4IN/~{U} (io), 16 P8_0/TA4OUT/U (io), 17 P7_7/TA3IN (io), 18 P7_6/TA3OUT (io), 19 P7_5/TA2IN/~{W} (io), 20 P7_4/TA2OUT/W (io), 21 P7_3/~{CTS}2/~{RTS}2/TA1IN/~{V}/TxD1 (io), 22 P7_2/CLK2/TA1OUT/V/RxD1 (io), 23 P7_1/RxD2/SCL2/TA0IN/CLK1 (io), 24 P7_0/TxD2/TA0OUT/SDA2/~{CTS}1/~{RTS}1/~{CTS}0/CLKS1 (io), 25 P6_7/TxD1 (io), 26 P6_6/RxD1 (io), 27 P6_5/CLK1 (io), 28 P6_4/~{CTS}1/~{RTS}1/~{CTS}0/CLKS1 (io), 29 P3_3 (io), 30 P3_2/SOUT3 (io), 31 P3_1/SIN3 (io), 32 P3_0/CLK3 (io), 33 P6_3/TxD0 (io), 34 P6_2/RxD0 (io), 35 P6_1/CLK0 (io), 36 P6_0/~{CTS}0/~{RTS}0 (io), 37 P2_7/OUTC1_7/INPC1_7 (io), 38 P2_6/OUTC1_6/INPC1_6 (io), 39 P2_5/OUTC1_5/INPC1_5 (io), 40 P2_4/OUTC1_4/INPC1_4 (io), 41 P2_3/OUTC1_3/INPC1_3 (io), 42 P2_2/OUTC1_2/INPC1_2 (io), 43 P2_1/OUTC1_1/INPC1_1/SCLMM (io), 44 P2_0/OUTC1_0/INPC1_0/SDAMM (io), 45 P1_7/~{INT}5/INPC1_7/IDU (io), 46 P1_6/~{INT}4/IDW (io), 47 P1_5/~{INT}3/~{ADTRG}/IDV (io), 48 P0_3/AN0_3 (io), 49 P0_2/AN0_2 (io), 50 P0_1/AN0_1 (io), 51 P0_0/AN0_0 (io), 52 P10_7/~{KI}3/AN_7 (io), 53 P10_6/~{KI}2/AN_6 (io), 54 P10_5/~{KI}1/AN_5 (io), 55 P10_4/~{KI}0/AN_4 (io), 56 P10_3/AN_3 (io), 57 P10_2/AN_2 (io), 58 P10_1/AN_1 (io), 60 P10_0/AN_0 (io), 61 VREF (in), 63 P9_3/AN2_4/CTX (io), 64 P9_2/AN3_2/TB2IN/CRX (io)
part B pins: 8 VSS (power), 10 VCC (power), 59 AVSS (power), 62 AVCC (power)

## M30291M8V-XXXHP
designator U?
Mask ROM M16C/Tiny Series, 29 Group MCU, 64K ROM, 4K RAM, 64-pin QFP, Version V; Note: Set bits PACR2 to PACR0 in PACR register.  If PACR register isn't set up, input & output function of some pins disabled.; Published: 28-Aug-2009; DatasheetVersion: Rev.1.12, Mar-2007; PackageVersion: Sep-2005; PackageReference: PLQP0064KB-A; Publisher: Altium Limited; PackageDescription: 64-Pin Plastic Low Profile QFP, 10 x 10 x 1.4 mm Body, 0.5 mm Pitch; Code_JEITA: P-LQFP64-10x10-0.50; Code_IPC: SQFP50P1200X1200-64; ComponentLink1Description: Manufacturer Link; ComponentLink1URL: http://sg.renesas.com/fmwk.jsp?cnt=m16c_family_landing.jsp&fp=/products/mpumcu/m16c_family/; ComponentLink2Description: Datasheet; ComponentLink2URL: http://documentation.renesas.com/eng/products/mpumcu/rej09b0101_16c29hm.pdf; ComponentLink3Description: Packaging Specification; ComponentLink3URL: http://sg.renesas.com/media/products/common_info/package/pdf/ic/code/plqp0064kb_a.pdf
footprint PLQP0064KB-A_N (Shrink QFP, 64-Leads, Body 10x10mm, Pitch 0.5mm, IPC Medium Density)
footprint PLQP0064KB-A_L (Shrink QFP, 64-Leads, Body 10x10mm, Pitch 0.5mm, IPC High Density)
footprint PLQP0064KB-A_M (Shrink QFP, 64-Leads, Body 10x10mm, Pitch 0.5mm, IPC Low Density)
part A pins: 1 P9_1/AN3_1/TB1IN (io), 2 P9_0/AN3_0/TB0IN/CLKOUT (io), 3 CNVSS (in), 4 P8_7/XCIN (io), 5 P8_6/XCOUT (io), 6 ~{RESET} (in), 7 XOUT (out), 9 XIN (in), 11 P8_5/~{NMI}/~{SD} (io), 12 P8_4/~{INT}2/ZP (io), 13 P8_3/~{INT}1 (io), 14 P8_2/~{INT}0 (io), 15 P8_1/TA4IN/~{U} (io), 16 P8_0/TA4OUT/U (io), 17 P7_7/TA3IN (io), 18 P7_6/TA3OUT (io), 19 P7_5/TA2IN/~{W} (io), 20 P7_4/TA2OUT/W (io), 21 P7_3/~{CTS}2/~{RTS}2/TA1IN/~{V}/TxD1 (io), 22 P7_2/CLK2/TA1OUT/V/RxD1 (io), 23 P7_1/RxD2/SCL2/TA0IN/CLK1 (io), 24 P7_0/TxD2/TA0OUT/SDA2/~{CTS}1/~{RTS}1/~{CTS}0/CLKS1 (io), 25 P6_7/TxD1 (io), 26 P6_6/RxD1 (io), 27 P6_5/CLK1 (io), 28 P6_4/~{CTS}1/~{RTS}1/~{CTS}0/CLKS1 (io), 29 P3_3 (io), 30 P3_2/SOUT3 (io), 31 P3_1/SIN3 (io), 32 P3_0/CLK3 (io), 33 P6_3/TxD0 (io), 34 P6_2/RxD0 (io), 35 P6_1/CLK0 (io), 36 P6_0/~{CTS}0/~{RTS}0 (io), 37 P2_7/OUTC1_7/INPC1_7 (io), 38 P2_6/OUTC1_6/INPC1_6 (io), 39 P2_5/OUTC1_5/INPC1_5 (io), 40 P2_4/OUTC1_4/INPC1_4 (io), 41 P2_3/OUTC1_3/INPC1_3 (io), 42 P2_2/OUTC1_2/INPC1_2 (io), 43 P2_1/OUTC1_1/INPC1_1/SCLMM (io), 44 P2_0/OUTC1_0/INPC1_0/SDAMM (io), 45 P1_7/~{INT}5/INPC1_7/IDU (io), 46 P1_6/~{INT}4/IDW (io), 47 P1_5/~{INT}3/~{ADTRG}/IDV (io), 48 P0_3/AN0_3 (io), 49 P0_2/AN0_2 (io), 50 P0_1/AN0_1 (io), 51 P0_0/AN0_0 (io), 52 P10_7/~{KI}3/AN_7 (io), 53 P10_6/~{KI}2/AN_6 (io), 54 P10_5/~{KI}1/AN_5 (io), 55 P10_4/~{KI}0/AN_4 (io), 56 P10_3/AN_3 (io), 57 P10_2/AN_2 (io), 58 P10_1/AN_1 (io), 60 P10_0/AN_0 (io), 61 VREF (in), 63 P9_3/AN2_4/CTX (io), 64 P9_2/AN3_2/TB2IN/CRX (io)
part B pins: 8 VSS (power), 10 VCC (power), 59 AVSS (power), 62 AVCC (power)

## M30291MA-XXXHP
designator U?
Mask ROM M16C/Tiny Series, 29 Group MCU, 96K ROM, 8K RAM, 64-pin QFP; Note: Set bits PACR2 to PACR0 in PACR register.  If PACR register isn't set up, input & output function of some pins disabled.; Published: 28-Aug-2009; DatasheetVersion: Rev.1.12, Mar-2007; PackageVersion: Sep-2005; PackageReference: PLQP0064KB-A; Publisher: Altium Limited; PackageDescription: 64-Pin Plastic Low Profile QFP, 10 x 10 x 1.4 mm Body, 0.5 mm Pitch; Code_JEITA: P-LQFP64-10x10-0.50; Code_IPC: SQFP50P1200X1200-64; ComponentLink1Description: Manufacturer Link; ComponentLink1URL: http://sg.renesas.com/fmwk.jsp?cnt=m16c_family_landing.jsp&fp=/products/mpumcu/m16c_family/; ComponentLink2Description: Datasheet; ComponentLink2URL: http://documentation.renesas.com/eng/products/mpumcu/rej09b0101_16c29hm.pdf; ComponentLink3Description: Packaging Specification; ComponentLink3URL: http://sg.renesas.com/media/products/common_info/package/pdf/ic/code/plqp0064kb_a.pdf
footprint PLQP0064KB-A_N (Shrink QFP, 64-Leads, Body 10x10mm, Pitch 0.5mm, IPC Medium Density)
footprint PLQP0064KB-A_L (Shrink QFP, 64-Leads, Body 10x10mm, Pitch 0.5mm, IPC High Density)
footprint PLQP0064KB-A_M (Shrink QFP, 64-Leads, Body 10x10mm, Pitch 0.5mm, IPC Low Density)
part A pins: 1 P9_1/AN3_1/TB1IN (io), 2 P9_0/AN3_0/TB0IN/CLKOUT (io), 3 CNVSS (in), 4 P8_7/XCIN (io), 5 P8_6/XCOUT (io), 6 ~{RESET} (in), 7 XOUT (out), 9 XIN (in), 11 P8_5/~{NMI}/~{SD} (io), 12 P8_4/~{INT}2/ZP (io), 13 P8_3/~{INT}1 (io), 14 P8_2/~{INT}0 (io), 15 P8_1/TA4IN/~{U} (io), 16 P8_0/TA4OUT/U (io), 17 P7_7/TA3IN (io), 18 P7_6/TA3OUT (io), 19 P7_5/TA2IN/~{W} (io), 20 P7_4/TA2OUT/W (io), 21 P7_3/~{CTS}2/~{RTS}2/TA1IN/~{V}/TxD1 (io), 22 P7_2/CLK2/TA1OUT/V/RxD1 (io), 23 P7_1/RxD2/SCL2/TA0IN/CLK1 (io), 24 P7_0/TxD2/TA0OUT/SDA2/~{CTS}1/~{RTS}1/~{CTS}0/CLKS1 (io), 25 P6_7/TxD1 (io), 26 P6_6/RxD1 (io), 27 P6_5/CLK1 (io), 28 P6_4/~{CTS}1/~{RTS}1/~{CTS}0/CLKS1 (io), 29 P3_3 (io), 30 P3_2/SOUT3 (io), 31 P3_1/SIN3 (io), 32 P3_0/CLK3 (io), 33 P6_3/TxD0 (io), 34 P6_2/RxD0 (io), 35 P6_1/CLK0 (io), 36 P6_0/~{CTS}0/~{RTS}0 (io), 37 P2_7/OUTC1_7/INPC1_7 (io), 38 P2_6/OUTC1_6/INPC1_6 (io), 39 P2_5/OUTC1_5/INPC1_5 (io), 40 P2_4/OUTC1_4/INPC1_4 (io), 41 P2_3/OUTC1_3/INPC1_3 (io), 42 P2_2/OUTC1_2/INPC1_2 (io), 43 P2_1/OUTC1_1/INPC1_1/SCLMM (io), 44 P2_0/OUTC1_0/INPC1_0/SDAMM (io), 45 P1_7/~{INT}5/INPC1_7/IDU (io), 46 P1_6/~{INT}4/IDW (io), 47 P1_5/~{INT}3/~{ADTRG}/IDV (io), 48 P0_3/AN0_3 (io), 49 P0_2/AN0_2 (io), 50 P0_1/AN0_1 (io), 51 P0_0/AN0_0 (io), 52 P10_7/~{KI}3/AN_7 (io), 53 P10_6/~{KI}2/AN_6 (io), 54 P10_5/~{KI}1/AN_5 (io), 55 P10_4/~{KI}0/AN_4 (io), 56 P10_3/AN_3 (io), 57 P10_2/AN_2 (io), 58 P10_1/AN_1 (io), 60 P10_0/AN_0 (io), 61 VREF (in), 63 P9_3/AN2_4/CTX (io), 64 P9_2/AN3_2/TB2IN/CRX (io)
part B pins: 8 VSS (power), 10 VCC (power), 59 AVSS (power), 62 AVCC (power)

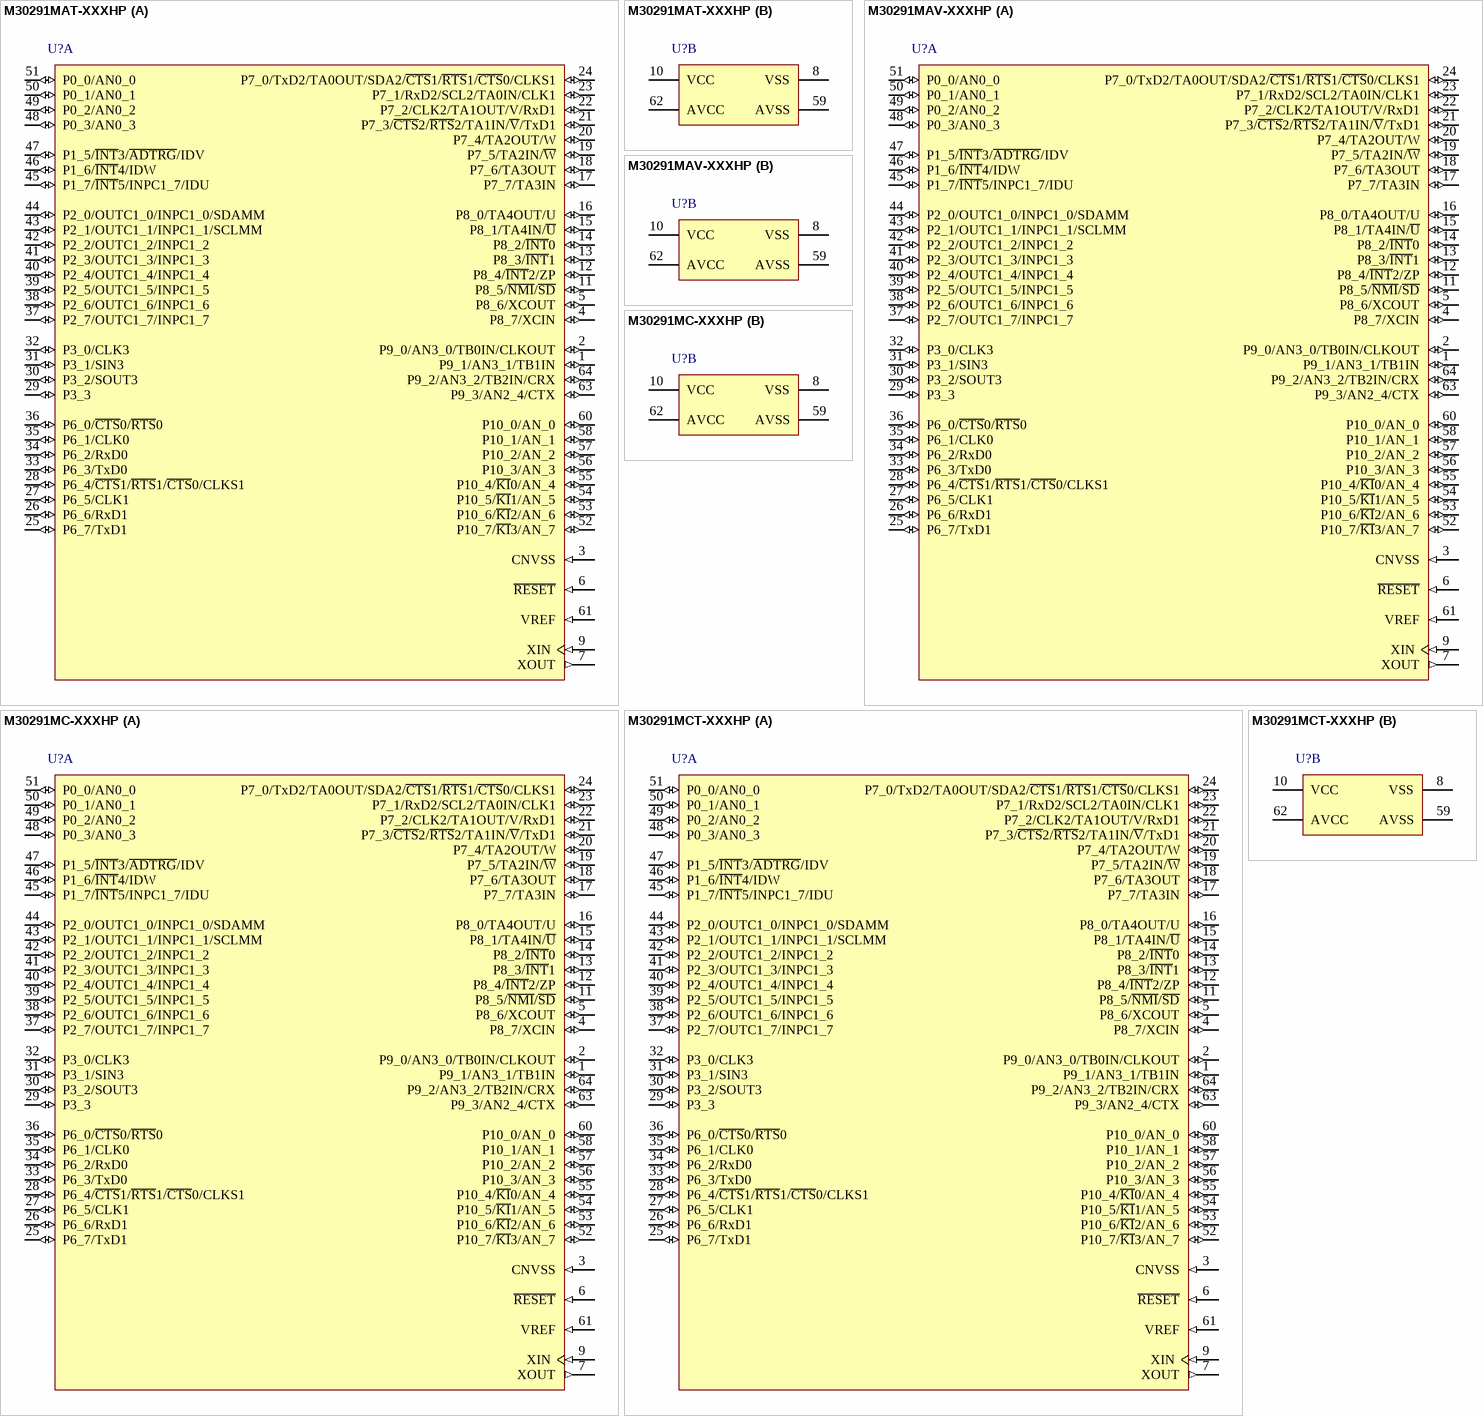
[diagram p56: symbols M30291MAT-XXXHP to M30291MCT-XXXHP]